# Altium integrated library Altera APEX 20KE.IntLib: 235 symbols (part 1 of 49)
Pins are listed as number, name and electrical type; pins without a type are passive.

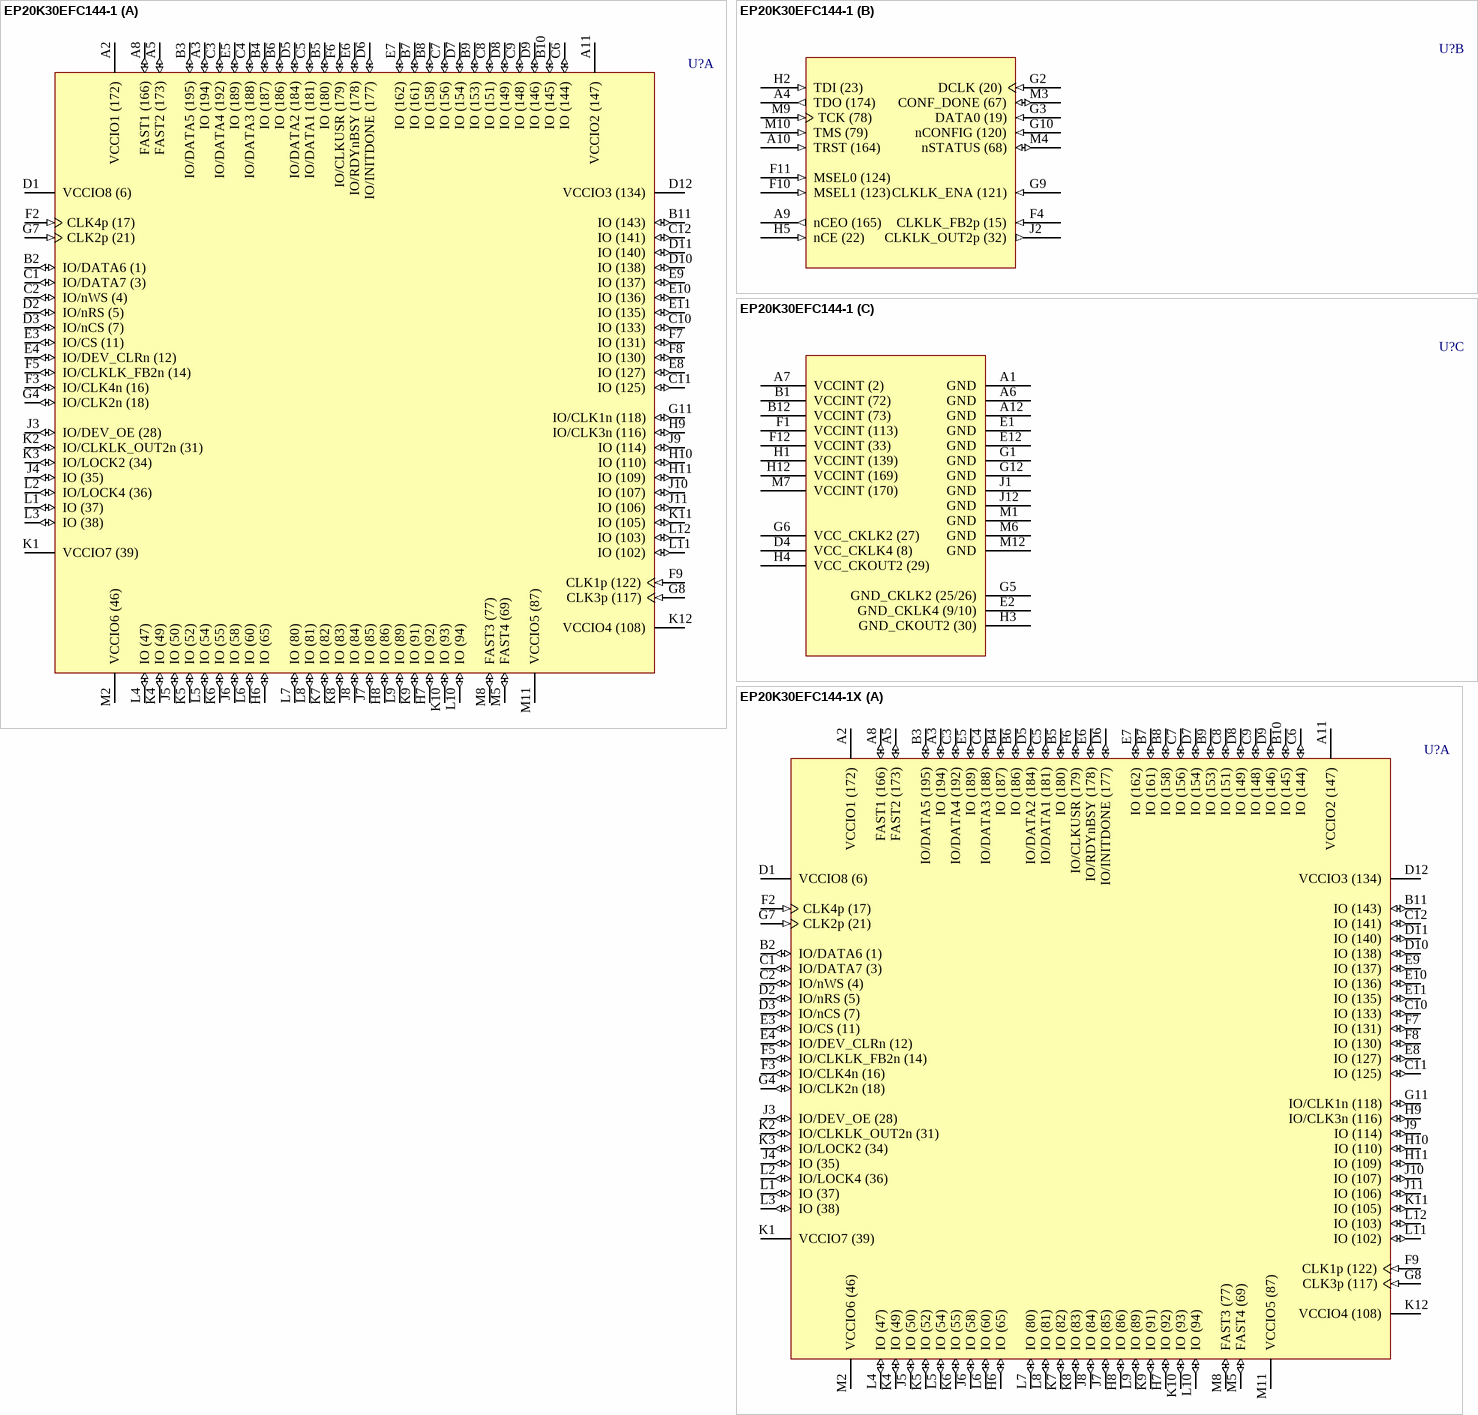
[diagram p0: symbols EP20K30EFC144-1 to EP20K30EFC144-1X]

## EP20K30EFC144-1
designator U?
APEX 20K30E PLD, 144-Pin FBGA, Commercial Grade, Speed Grade 1; Published: 17-Jul-2002; LatestRevisionDate: 13-Apr-2006; LatestRevisionNote: IPC-7351 Footprint Added.; DatasheetVersion: Mar-2004; PackageVersion: ver15.1, May-2008; PackageReference: FBGA144; Publisher: Altium Limited; PackageDescription: 144-Ball FineLine Ball Grid Array (FBGA144) - Wire Bond; Code_JEDEC: MO-192-AAD-1; Code_IPC: BGA100P12X12-144; ComponentLink1Description: Manufacturer Link; ComponentLink1URL: http://www.altera.com/products/devices/apex/apx-index.html; ComponentLink2Description: Datasheet; ComponentLink2URL: http://www.altera.com/literature/ds/apex.pdf
footprint FBGA144 (BGA, 144-Leads, Body 13x13mm, Pitch 1mm)
3D model EP20K30E-FBGA144 (144-Ball FineLine Ball Grid Array (FBGA144) - Wire Bond)
part A pins: A2 VCCIO1 (172) (power), A3 IO (194) (io), A5 FAST2 (173) (io), A8 FAST1 (166) (io), A11 VCCIO2 (147) (power), B2 IO/DATA6 (1) (io), B3 IO/DATA5 (195) (io), B4 IO (187) (io), B5 IO (180) (io), B6 IO (186) (io), B7 IO (161) (io), B8 IO (158) (io), B9 IO (153) (io), B10 IO (145) (io), B11 IO (143) (io), C1 IO/DATA7 (3) (io), C2 IO/nWS (4) (io), C3 IO/DATA4 (192) (io), C4 IO/DATA3 (188) (io), C5 IO/DATA1 (181) (io), C6 IO (144) (io), C7 IO (156) (io), C8 IO (151) (io), C9 IO (148) (io), C10 IO (133) (io), C11 IO (125) (io), C12 IO (141) (io), D1 VCCIO8 (6) (power), D2 IO/nRS (5) (io), D3 IO/nCS (7) (io), D5 IO/DATA2 (184) (io), D6 IO/INITDONE (177) (io), D7 IO (154) (io), D8 IO (149) (io), D9 IO (146) (io), D10 IO (138) (io), D11 IO (140) (io), D12 VCCIO3 (134) (power), E3 IO/CS (11) (io), E4 IO/DEV_CLRn (12) (io), E5 IO (189) (io), E6 IO/RDYnBSY (178) (io), E7 IO (162) (io), E8 IO (127) (io), E9 IO (137) (io), E10 IO (136) (io), E11 IO (135) (io), F2 CLK4p (17) (in), F3 IO/CLK4n (16) (io), F5 IO/CLKLK_FB2n (14) (io), F6 IO/CLKUSR (179) (io), F7 IO (131) (io), F8 IO (130) (io), F9 CLK1p (122) (in), G4 IO/CLK2n (18) (io), G7 CLK2p (21) (in), G8 CLK3p (117) (in), G11 IO/CLK1n (118) (io), H6 IO (65) (io), H7 IO (92) (io), H8 IO (86) (io), H9 IO/CLK3n (116) (io), H10 IO (110) (io), H11 IO (109) (io), J3 IO/DEV_OE (28) (io), J4 IO (35) (io), J5 IO (50) (io), J6 IO (58) (io), J7 IO (85) (io), J8 IO (84) (io), J9 IO (114) (io), J10 IO (107) (io), J11 IO (106) (io), K1 VCCIO7 (39) (power), K2 IO/CLKLK_OUT2n (31) (io), K3 IO/LOCK2 (34) (io), K4 IO (49) (io), K5 IO (52) (io), K6 IO (55) (io), K7 IO (82) (io), K8 IO (83) (io), K9 IO (91) (io), K10 IO (93) (io), K11 IO (105) (io), K12 VCCIO4 (108) (power), L1 IO (37) (io), L2 IO/LOCK4 (36) (io), L3 IO (38) (io), L4 IO (47) (io), L5 IO (54) (io), L6 IO (60) (io), L7 IO (80) (io), L8 IO (81) (io), L9 IO (89) (io), L10 IO (94) (io), L11 IO (102) (io), L12 IO (103) (io), M2 VCCIO6 (46) (power), M5 FAST4 (69) (io), M8 FAST3 (77) (io), M11 VCCIO5 (87) (power)
part B pins: A4 TDO (174) (out), A9 nCEO (165) (out), A10 TRST (164) (in), F4 CLKLK_FB2p (15) (in), F10 MSEL1 (123) (in), F11 MSEL0 (124) (in), G2 DCLK (20) (in), G3 DATA0 (19) (in), G9 CLKLK_ENA (121) (in), G10 nCONFIG (120) (in), H2 TDI (23) (in), H5 nCE (22) (in), J2 CLKLK_OUT2p (32) (out), M3 CONF_DONE (67) (io), M4 nSTATUS (68) (io), M9 TCK (78) (in), M10 TMS (79) (in)
part C pins: A1 GND (power), A6 GND (power), A7 VCCINT (2) (power), A12 GND (power), B1 VCCINT (72) (power), B12 VCCINT (73) (power), D4 VCC_CKLK4 (8) (power), E1 GND (power), E2 GND_CKLK4 (9/10) (power), E12 GND (power), F1 VCCINT (113) (power), F12 VCCINT (33) (power), G1 GND (power), G5 GND_CKLK2 (25/26) (power), G6 VCC_CKLK2 (27) (power), G12 GND (power), H1 VCCINT (139) (power), H3 GND_CKOUT2 (30) (power), H4 VCC_CKOUT2 (29) (power), H12 VCCINT (169) (power), J1 GND (power), J12 GND (power), M1 GND (power), M6 GND (power), M7 VCCINT (170) (power), M12 GND (power)

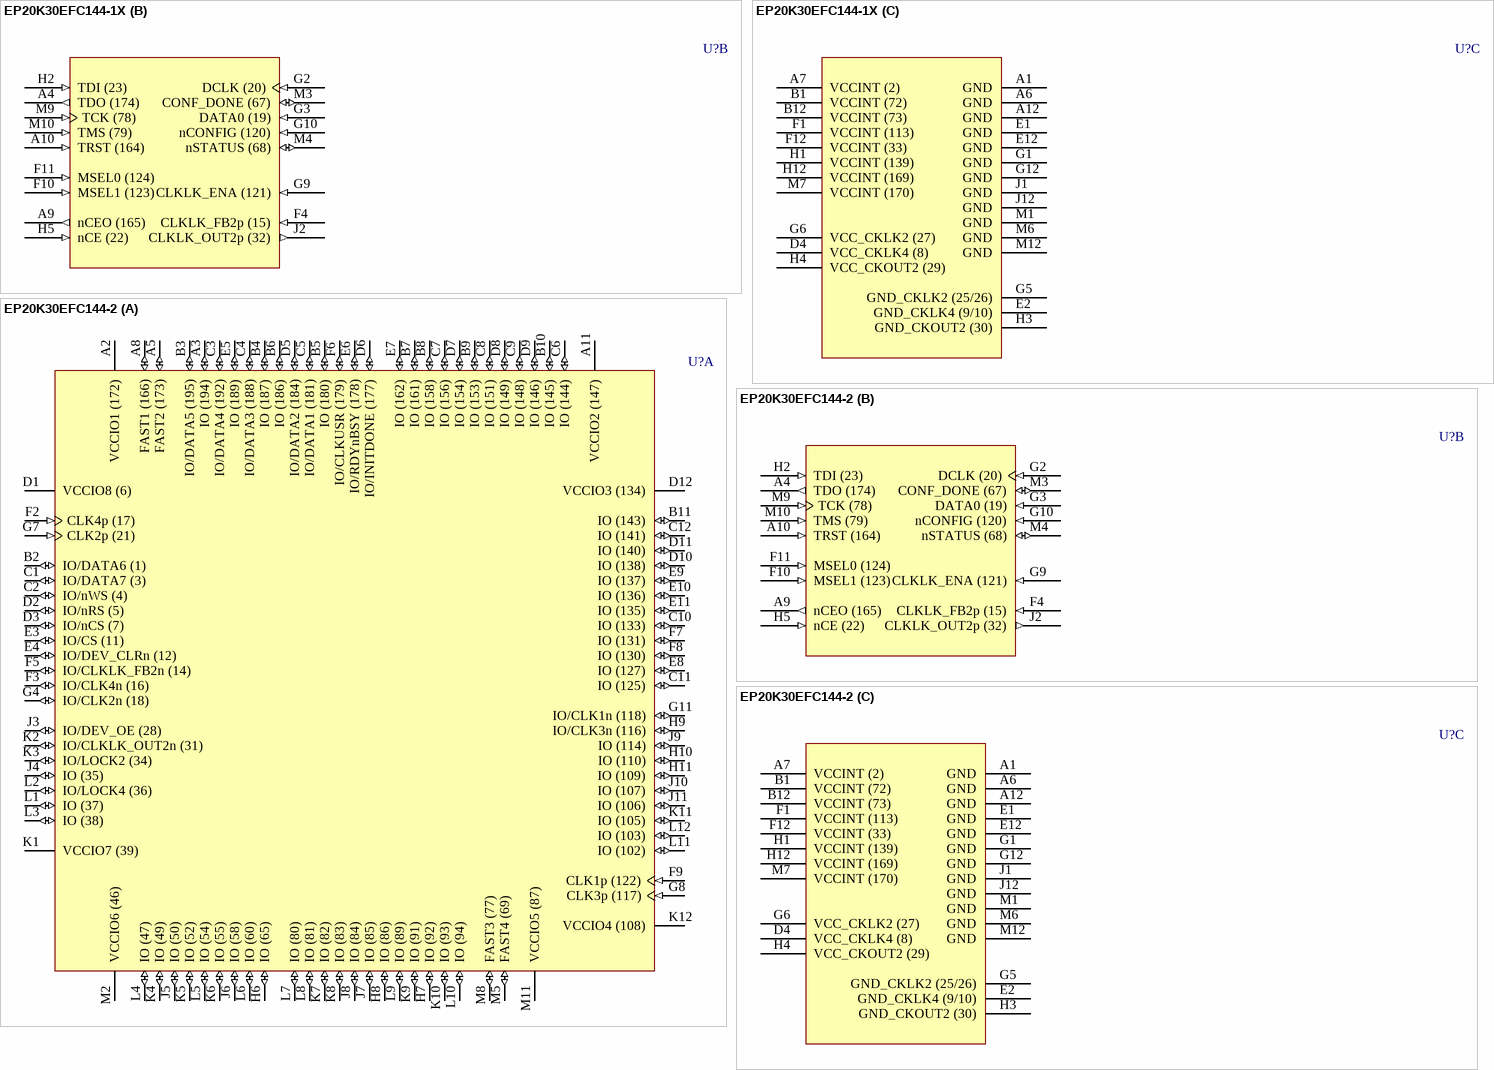
[diagram p1: symbols EP20K30EFC144-1X to EP20K30EFC144-2]

## EP20K30EFC144-1X
designator U?
APEX 20K30E PLD with PLLs and LVDS, 144-Pin FBGA, Commercial Grade, Speed Grade 1; Published: 17-Jul-2002; LatestRevisionDate: 13-Apr-2006; LatestRevisionNote: IPC-7351 Footprint Added.; DatasheetVersion: Mar-2004; PackageVersion: ver15.1, May-2008; PackageReference: FBGA144; Publisher: Altium Limited; PackageDescription: 144-Ball FineLine Ball Grid Array (FBGA144) - Wire Bond; Code_JEDEC: MO-192-AAD-1; Code_IPC: BGA100P12X12-144; ComponentLink1Description: Manufacturer Link; ComponentLink1URL: http://www.altera.com/products/devices/apex/apx-index.html; ComponentLink2Description: Datasheet; ComponentLink2URL: http://www.altera.com/literature/ds/apex.pdf
footprint FBGA144 (BGA, 144-Leads, Body 13x13mm, Pitch 1mm)
3D model EP20K30E-FBGA144 (144-Ball FineLine Ball Grid Array (FBGA144) - Wire Bond)
part A pins: A2 VCCIO1 (172) (power), A3 IO (194) (io), A5 FAST2 (173) (io), A8 FAST1 (166) (io), A11 VCCIO2 (147) (power), B2 IO/DATA6 (1) (io), B3 IO/DATA5 (195) (io), B4 IO (187) (io), B5 IO (180) (io), B6 IO (186) (io), B7 IO (161) (io), B8 IO (158) (io), B9 IO (153) (io), B10 IO (145) (io), B11 IO (143) (io), C1 IO/DATA7 (3) (io), C2 IO/nWS (4) (io), C3 IO/DATA4 (192) (io), C4 IO/DATA3 (188) (io), C5 IO/DATA1 (181) (io), C6 IO (144) (io), C7 IO (156) (io), C8 IO (151) (io), C9 IO (148) (io), C10 IO (133) (io), C11 IO (125) (io), C12 IO (141) (io), D1 VCCIO8 (6) (power), D2 IO/nRS (5) (io), D3 IO/nCS (7) (io), D5 IO/DATA2 (184) (io), D6 IO/INITDONE (177) (io), D7 IO (154) (io), D8 IO (149) (io), D9 IO (146) (io), D10 IO (138) (io), D11 IO (140) (io), D12 VCCIO3 (134) (power), E3 IO/CS (11) (io), E4 IO/DEV_CLRn (12) (io), E5 IO (189) (io), E6 IO/RDYnBSY (178) (io), E7 IO (162) (io), E8 IO (127) (io), E9 IO (137) (io), E10 IO (136) (io), E11 IO (135) (io), F2 CLK4p (17) (in), F3 IO/CLK4n (16) (io), F5 IO/CLKLK_FB2n (14) (io), F6 IO/CLKUSR (179) (io), F7 IO (131) (io), F8 IO (130) (io), F9 CLK1p (122) (in), G4 IO/CLK2n (18) (io), G7 CLK2p (21) (in), G8 CLK3p (117) (in), G11 IO/CLK1n (118) (io), H6 IO (65) (io), H7 IO (92) (io), H8 IO (86) (io), H9 IO/CLK3n (116) (io), H10 IO (110) (io), H11 IO (109) (io), J3 IO/DEV_OE (28) (io), J4 IO (35) (io), J5 IO (50) (io), J6 IO (58) (io), J7 IO (85) (io), J8 IO (84) (io), J9 IO (114) (io), J10 IO (107) (io), J11 IO (106) (io), K1 VCCIO7 (39) (power), K2 IO/CLKLK_OUT2n (31) (io), K3 IO/LOCK2 (34) (io), K4 IO (49) (io), K5 IO (52) (io), K6 IO (55) (io), K7 IO (82) (io), K8 IO (83) (io), K9 IO (91) (io), K10 IO (93) (io), K11 IO (105) (io), K12 VCCIO4 (108) (power), L1 IO (37) (io), L2 IO/LOCK4 (36) (io), L3 IO (38) (io), L4 IO (47) (io), L5 IO (54) (io), L6 IO (60) (io), L7 IO (80) (io), L8 IO (81) (io), L9 IO (89) (io), L10 IO (94) (io), L11 IO (102) (io), L12 IO (103) (io), M2 VCCIO6 (46) (power), M5 FAST4 (69) (io), M8 FAST3 (77) (io), M11 VCCIO5 (87) (power)
part B pins: A4 TDO (174) (out), A9 nCEO (165) (out), A10 TRST (164) (in), F4 CLKLK_FB2p (15) (in), F10 MSEL1 (123) (in), F11 MSEL0 (124) (in), G2 DCLK (20) (in), G3 DATA0 (19) (in), G9 CLKLK_ENA (121) (in), G10 nCONFIG (120) (in), H2 TDI (23) (in), H5 nCE (22) (in), J2 CLKLK_OUT2p (32) (out), M3 CONF_DONE (67) (io), M4 nSTATUS (68) (io), M9 TCK (78) (in), M10 TMS (79) (in)
part C pins: A1 GND (power), A6 GND (power), A7 VCCINT (2) (power), A12 GND (power), B1 VCCINT (72) (power), B12 VCCINT (73) (power), D4 VCC_CKLK4 (8) (power), E1 GND (power), E2 GND_CKLK4 (9/10) (power), E12 GND (power), F1 VCCINT (113) (power), F12 VCCINT (33) (power), G1 GND (power), G5 GND_CKLK2 (25/26) (power), G6 VCC_CKLK2 (27) (power), G12 GND (power), H1 VCCINT (139) (power), H3 GND_CKOUT2 (30) (power), H4 VCC_CKOUT2 (29) (power), H12 VCCINT (169) (power), J1 GND (power), J12 GND (power), M1 GND (power), M6 GND (power), M7 VCCINT (170) (power), M12 GND (power)

## EP20K30EFC144-2
designator U?
APEX 20K30E PLD, 144-Pin FBGA, Commercial Grade, Speed Grade 2; Published: 17-Jul-2002; LatestRevisionDate: 13-Apr-2006; LatestRevisionNote: IPC-7351 Footprint Added.; DatasheetVersion: Mar-2004; PackageVersion: ver15.1, May-2008; PackageReference: FBGA144; Publisher: Altium Limited; PackageDescription: 144-Ball FineLine Ball Grid Array (FBGA144) - Wire Bond; Code_JEDEC: MO-192-AAD-1; Code_IPC: BGA100P12X12-144; ComponentLink1Description: Manufacturer Link; ComponentLink1URL: http://www.altera.com/products/devices/apex/apx-index.html; ComponentLink2Description: Datasheet; ComponentLink2URL: http://www.altera.com/literature/ds/apex.pdf
footprint FBGA144 (BGA, 144-Leads, Body 13x13mm, Pitch 1mm)
3D model EP20K30E-FBGA144 (144-Ball FineLine Ball Grid Array (FBGA144) - Wire Bond)
part A pins: A2 VCCIO1 (172) (power), A3 IO (194) (io), A5 FAST2 (173) (io), A8 FAST1 (166) (io), A11 VCCIO2 (147) (power), B2 IO/DATA6 (1) (io), B3 IO/DATA5 (195) (io), B4 IO (187) (io), B5 IO (180) (io), B6 IO (186) (io), B7 IO (161) (io), B8 IO (158) (io), B9 IO (153) (io), B10 IO (145) (io), B11 IO (143) (io), C1 IO/DATA7 (3) (io), C2 IO/nWS (4) (io), C3 IO/DATA4 (192) (io), C4 IO/DATA3 (188) (io), C5 IO/DATA1 (181) (io), C6 IO (144) (io), C7 IO (156) (io), C8 IO (151) (io), C9 IO (148) (io), C10 IO (133) (io), C11 IO (125) (io), C12 IO (141) (io), D1 VCCIO8 (6) (power), D2 IO/nRS (5) (io), D3 IO/nCS (7) (io), D5 IO/DATA2 (184) (io), D6 IO/INITDONE (177) (io), D7 IO (154) (io), D8 IO (149) (io), D9 IO (146) (io), D10 IO (138) (io), D11 IO (140) (io), D12 VCCIO3 (134) (power), E3 IO/CS (11) (io), E4 IO/DEV_CLRn (12) (io), E5 IO (189) (io), E6 IO/RDYnBSY (178) (io), E7 IO (162) (io), E8 IO (127) (io), E9 IO (137) (io), E10 IO (136) (io), E11 IO (135) (io), F2 CLK4p (17) (in), F3 IO/CLK4n (16) (io), F5 IO/CLKLK_FB2n (14) (io), F6 IO/CLKUSR (179) (io), F7 IO (131) (io), F8 IO (130) (io), F9 CLK1p (122) (in), G4 IO/CLK2n (18) (io), G7 CLK2p (21) (in), G8 CLK3p (117) (in), G11 IO/CLK1n (118) (io), H6 IO (65) (io), H7 IO (92) (io), H8 IO (86) (io), H9 IO/CLK3n (116) (io), H10 IO (110) (io), H11 IO (109) (io), J3 IO/DEV_OE (28) (io), J4 IO (35) (io), J5 IO (50) (io), J6 IO (58) (io), J7 IO (85) (io), J8 IO (84) (io), J9 IO (114) (io), J10 IO (107) (io), J11 IO (106) (io), K1 VCCIO7 (39) (power), K2 IO/CLKLK_OUT2n (31) (io), K3 IO/LOCK2 (34) (io), K4 IO (49) (io), K5 IO (52) (io), K6 IO (55) (io), K7 IO (82) (io), K8 IO (83) (io), K9 IO (91) (io), K10 IO (93) (io), K11 IO (105) (io), K12 VCCIO4 (108) (power), L1 IO (37) (io), L2 IO/LOCK4 (36) (io), L3 IO (38) (io), L4 IO (47) (io), L5 IO (54) (io), L6 IO (60) (io), L7 IO (80) (io), L8 IO (81) (io), L9 IO (89) (io), L10 IO (94) (io), L11 IO (102) (io), L12 IO (103) (io), M2 VCCIO6 (46) (power), M5 FAST4 (69) (io), M8 FAST3 (77) (io), M11 VCCIO5 (87) (power)
part B pins: A4 TDO (174) (out), A9 nCEO (165) (out), A10 TRST (164) (in), F4 CLKLK_FB2p (15) (in), F10 MSEL1 (123) (in), F11 MSEL0 (124) (in), G2 DCLK (20) (in), G3 DATA0 (19) (in), G9 CLKLK_ENA (121) (in), G10 nCONFIG (120) (in), H2 TDI (23) (in), H5 nCE (22) (in), J2 CLKLK_OUT2p (32) (out), M3 CONF_DONE (67) (io), M4 nSTATUS (68) (io), M9 TCK (78) (in), M10 TMS (79) (in)
part C pins: A1 GND (power), A6 GND (power), A7 VCCINT (2) (power), A12 GND (power), B1 VCCINT (72) (power), B12 VCCINT (73) (power), D4 VCC_CKLK4 (8) (power), E1 GND (power), E2 GND_CKLK4 (9/10) (power), E12 GND (power), F1 VCCINT (113) (power), F12 VCCINT (33) (power), G1 GND (power), G5 GND_CKLK2 (25/26) (power), G6 VCC_CKLK2 (27) (power), G12 GND (power), H1 VCCINT (139) (power), H3 GND_CKOUT2 (30) (power), H4 VCC_CKOUT2 (29) (power), H12 VCCINT (169) (power), J1 GND (power), J12 GND (power), M1 GND (power), M6 GND (power), M7 VCCINT (170) (power), M12 GND (power)

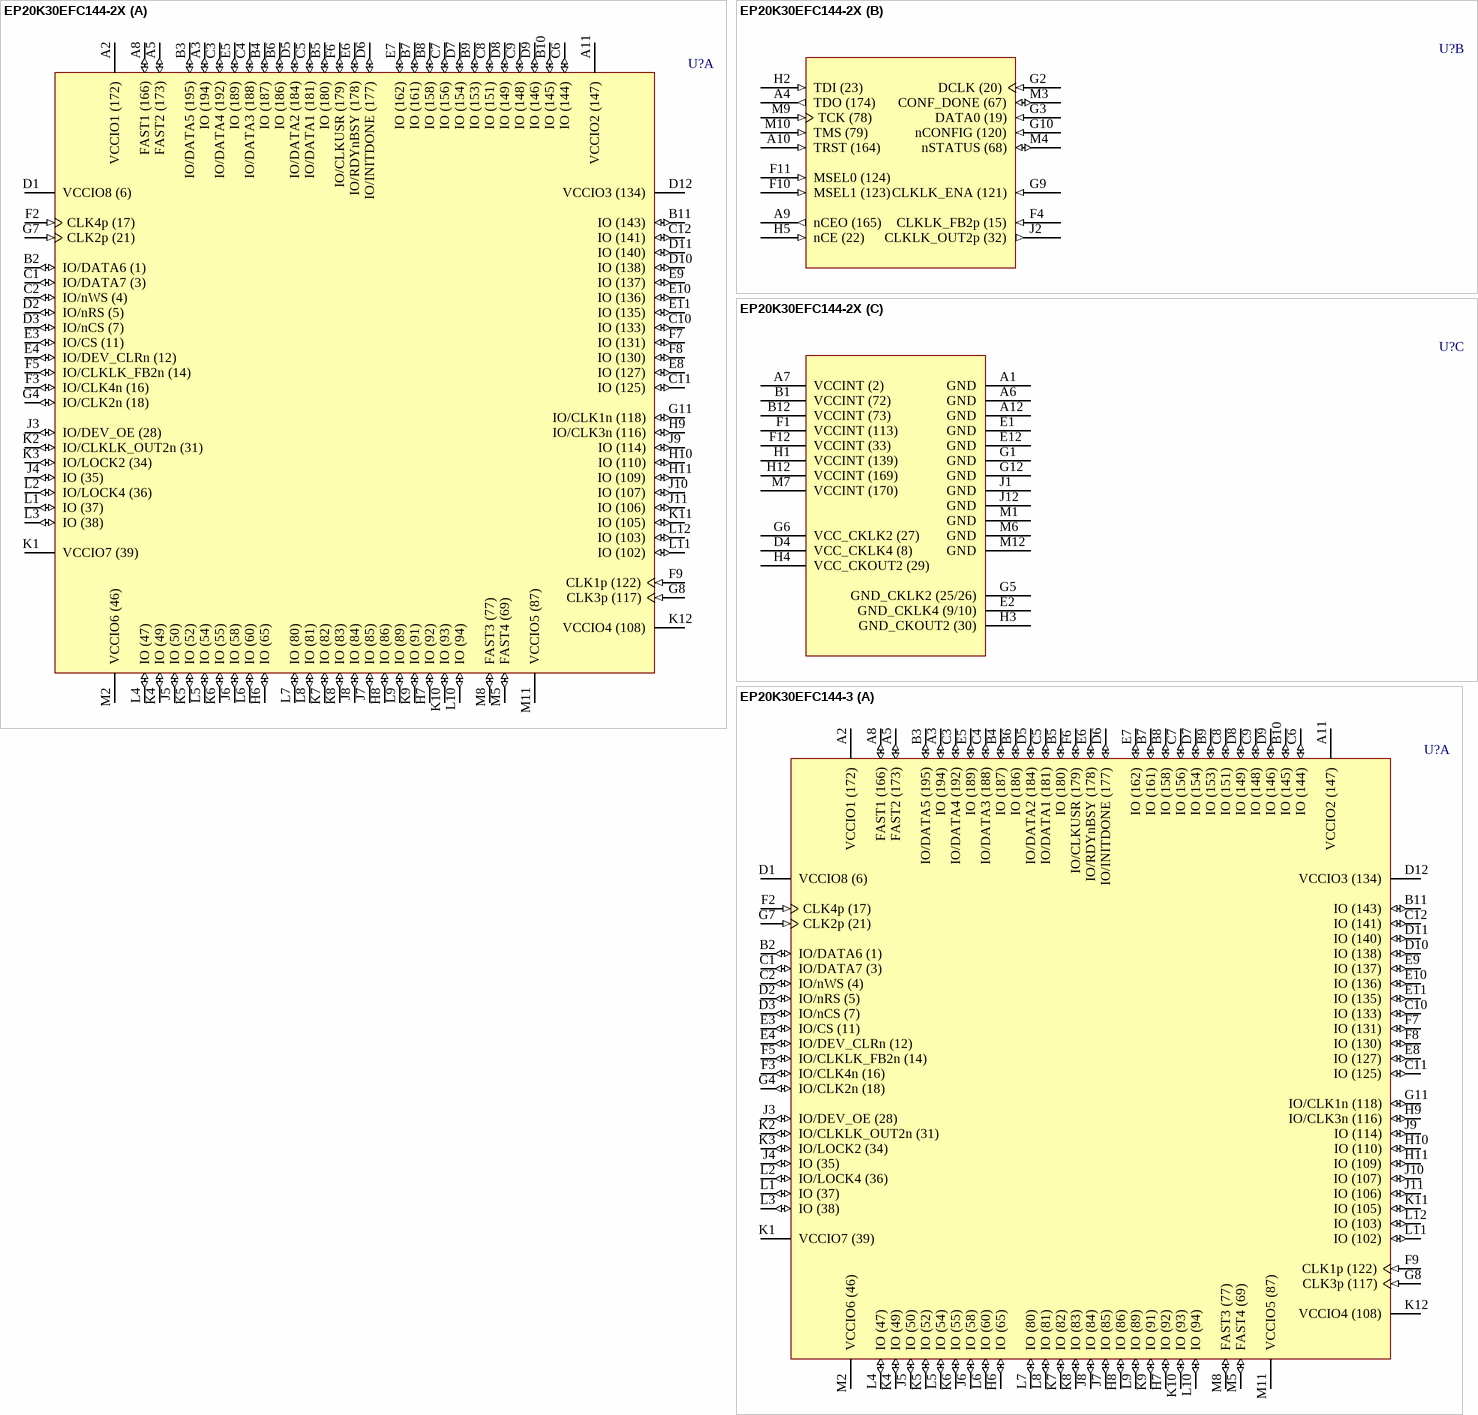
[diagram p2: symbols EP20K30EFC144-2X to EP20K30EFC144-3]

## EP20K30EFC144-2X
designator U?
APEX 20K30E PLD with PLLs and LVDS, 144-Pin FBGA, Commercial Grade, Speed Grade 2; Published: 17-Jul-2002; LatestRevisionDate: 13-Apr-2006; LatestRevisionNote: IPC-7351 Footprint Added.; DatasheetVersion: Mar-2004; PackageVersion: ver15.1, May-2008; PackageReference: FBGA144; Publisher: Altium Limited; PackageDescription: 144-Ball FineLine Ball Grid Array (FBGA144) - Wire Bond; Code_JEDEC: MO-192-AAD-1; Code_IPC: BGA100P12X12-144; ComponentLink1Description: Manufacturer Link; ComponentLink1URL: http://www.altera.com/products/devices/apex/apx-index.html; ComponentLink2Description: Datasheet; ComponentLink2URL: http://www.altera.com/literature/ds/apex.pdf
footprint FBGA144 (BGA, 144-Leads, Body 13x13mm, Pitch 1mm)
3D model EP20K30E-FBGA144 (144-Ball FineLine Ball Grid Array (FBGA144) - Wire Bond)
part A pins: A2 VCCIO1 (172) (power), A3 IO (194) (io), A5 FAST2 (173) (io), A8 FAST1 (166) (io), A11 VCCIO2 (147) (power), B2 IO/DATA6 (1) (io), B3 IO/DATA5 (195) (io), B4 IO (187) (io), B5 IO (180) (io), B6 IO (186) (io), B7 IO (161) (io), B8 IO (158) (io), B9 IO (153) (io), B10 IO (145) (io), B11 IO (143) (io), C1 IO/DATA7 (3) (io), C2 IO/nWS (4) (io), C3 IO/DATA4 (192) (io), C4 IO/DATA3 (188) (io), C5 IO/DATA1 (181) (io), C6 IO (144) (io), C7 IO (156) (io), C8 IO (151) (io), C9 IO (148) (io), C10 IO (133) (io), C11 IO (125) (io), C12 IO (141) (io), D1 VCCIO8 (6) (power), D2 IO/nRS (5) (io), D3 IO/nCS (7) (io), D5 IO/DATA2 (184) (io), D6 IO/INITDONE (177) (io), D7 IO (154) (io), D8 IO (149) (io), D9 IO (146) (io), D10 IO (138) (io), D11 IO (140) (io), D12 VCCIO3 (134) (power), E3 IO/CS (11) (io), E4 IO/DEV_CLRn (12) (io), E5 IO (189) (io), E6 IO/RDYnBSY (178) (io), E7 IO (162) (io), E8 IO (127) (io), E9 IO (137) (io), E10 IO (136) (io), E11 IO (135) (io), F2 CLK4p (17) (in), F3 IO/CLK4n (16) (io), F5 IO/CLKLK_FB2n (14) (io), F6 IO/CLKUSR (179) (io), F7 IO (131) (io), F8 IO (130) (io), F9 CLK1p (122) (in), G4 IO/CLK2n (18) (io), G7 CLK2p (21) (in), G8 CLK3p (117) (in), G11 IO/CLK1n (118) (io), H6 IO (65) (io), H7 IO (92) (io), H8 IO (86) (io), H9 IO/CLK3n (116) (io), H10 IO (110) (io), H11 IO (109) (io), J3 IO/DEV_OE (28) (io), J4 IO (35) (io), J5 IO (50) (io), J6 IO (58) (io), J7 IO (85) (io), J8 IO (84) (io), J9 IO (114) (io), J10 IO (107) (io), J11 IO (106) (io), K1 VCCIO7 (39) (power), K2 IO/CLKLK_OUT2n (31) (io), K3 IO/LOCK2 (34) (io), K4 IO (49) (io), K5 IO (52) (io), K6 IO (55) (io), K7 IO (82) (io), K8 IO (83) (io), K9 IO (91) (io), K10 IO (93) (io), K11 IO (105) (io), K12 VCCIO4 (108) (power), L1 IO (37) (io), L2 IO/LOCK4 (36) (io), L3 IO (38) (io), L4 IO (47) (io), L5 IO (54) (io), L6 IO (60) (io), L7 IO (80) (io), L8 IO (81) (io), L9 IO (89) (io), L10 IO (94) (io), L11 IO (102) (io), L12 IO (103) (io), M2 VCCIO6 (46) (power), M5 FAST4 (69) (io), M8 FAST3 (77) (io), M11 VCCIO5 (87) (power)
part B pins: A4 TDO (174) (out), A9 nCEO (165) (out), A10 TRST (164) (in), F4 CLKLK_FB2p (15) (in), F10 MSEL1 (123) (in), F11 MSEL0 (124) (in), G2 DCLK (20) (in), G3 DATA0 (19) (in), G9 CLKLK_ENA (121) (in), G10 nCONFIG (120) (in), H2 TDI (23) (in), H5 nCE (22) (in), J2 CLKLK_OUT2p (32) (out), M3 CONF_DONE (67) (io), M4 nSTATUS (68) (io), M9 TCK (78) (in), M10 TMS (79) (in)
part C pins: A1 GND (power), A6 GND (power), A7 VCCINT (2) (power), A12 GND (power), B1 VCCINT (72) (power), B12 VCCINT (73) (power), D4 VCC_CKLK4 (8) (power), E1 GND (power), E2 GND_CKLK4 (9/10) (power), E12 GND (power), F1 VCCINT (113) (power), F12 VCCINT (33) (power), G1 GND (power), G5 GND_CKLK2 (25/26) (power), G6 VCC_CKLK2 (27) (power), G12 GND (power), H1 VCCINT (139) (power), H3 GND_CKOUT2 (30) (power), H4 VCC_CKOUT2 (29) (power), H12 VCCINT (169) (power), J1 GND (power), J12 GND (power), M1 GND (power), M6 GND (power), M7 VCCINT (170) (power), M12 GND (power)

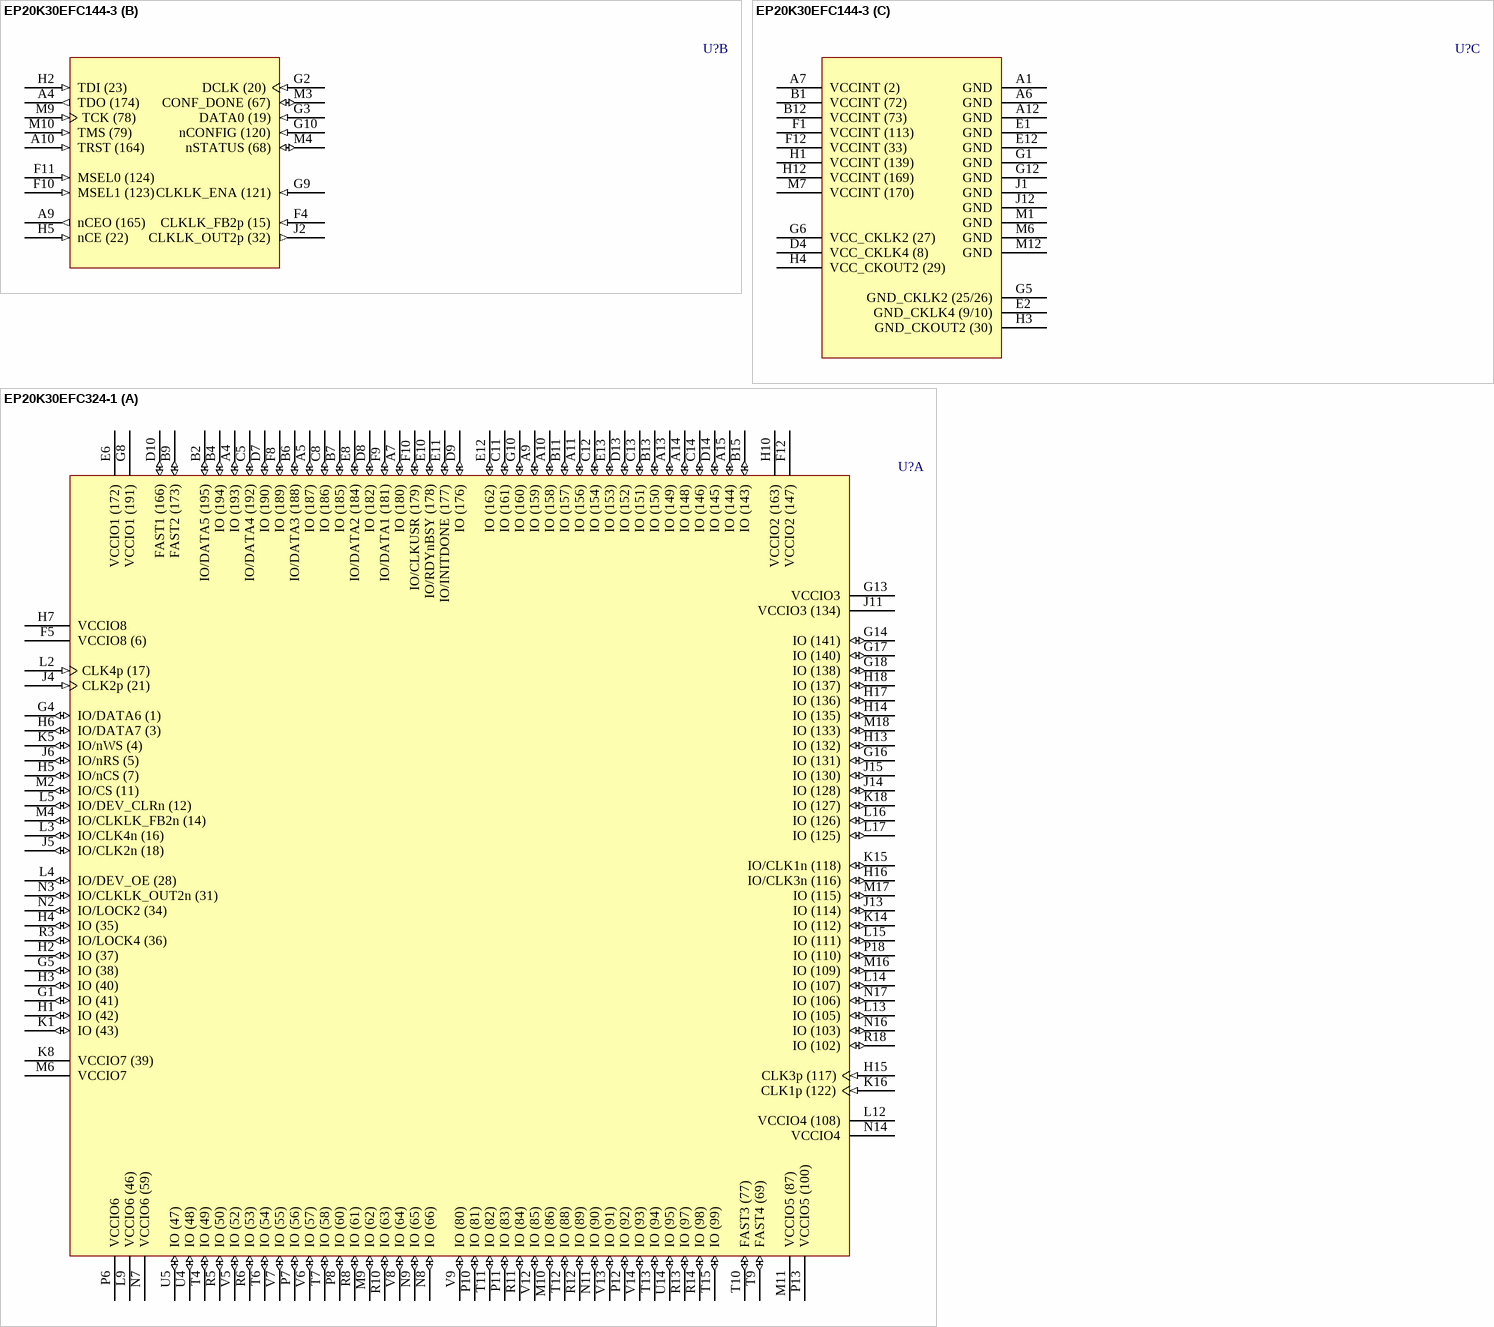
[diagram p3: symbols EP20K30EFC144-3 to EP20K30EFC324-1]

## EP20K30EFC144-3
designator U?
APEX 20K30E PLD, 144-Pin FBGA, Commercial Grade, Speed Grade 3; Published: 17-Jul-2002; LatestRevisionDate: 13-Apr-2006; LatestRevisionNote: IPC-7351 Footprint Added.; DatasheetVersion: Mar-2004; PackageVersion: ver15.1, May-2008; PackageReference: FBGA144; Publisher: Altium Limited; PackageDescription: 144-Ball FineLine Ball Grid Array (FBGA144) - Wire Bond; Code_JEDEC: MO-192-AAD-1; Code_IPC: BGA100P12X12-144; ComponentLink1Description: Manufacturer Link; ComponentLink1URL: http://www.altera.com/products/devices/apex/apx-index.html; ComponentLink2Description: Datasheet; ComponentLink2URL: http://www.altera.com/literature/ds/apex.pdf
footprint FBGA144 (BGA, 144-Leads, Body 13x13mm, Pitch 1mm)
3D model EP20K30E-FBGA144 (144-Ball FineLine Ball Grid Array (FBGA144) - Wire Bond)
part A pins: A2 VCCIO1 (172) (power), A3 IO (194) (io), A5 FAST2 (173) (io), A8 FAST1 (166) (io), A11 VCCIO2 (147) (power), B2 IO/DATA6 (1) (io), B3 IO/DATA5 (195) (io), B4 IO (187) (io), B5 IO (180) (io), B6 IO (186) (io), B7 IO (161) (io), B8 IO (158) (io), B9 IO (153) (io), B10 IO (145) (io), B11 IO (143) (io), C1 IO/DATA7 (3) (io), C2 IO/nWS (4) (io), C3 IO/DATA4 (192) (io), C4 IO/DATA3 (188) (io), C5 IO/DATA1 (181) (io), C6 IO (144) (io), C7 IO (156) (io), C8 IO (151) (io), C9 IO (148) (io), C10 IO (133) (io), C11 IO (125) (io), C12 IO (141) (io), D1 VCCIO8 (6) (power), D2 IO/nRS (5) (io), D3 IO/nCS (7) (io), D5 IO/DATA2 (184) (io), D6 IO/INITDONE (177) (io), D7 IO (154) (io), D8 IO (149) (io), D9 IO (146) (io), D10 IO (138) (io), D11 IO (140) (io), D12 VCCIO3 (134) (power), E3 IO/CS (11) (io), E4 IO/DEV_CLRn (12) (io), E5 IO (189) (io), E6 IO/RDYnBSY (178) (io), E7 IO (162) (io), E8 IO (127) (io), E9 IO (137) (io), E10 IO (136) (io), E11 IO (135) (io), F2 CLK4p (17) (in), F3 IO/CLK4n (16) (io), F5 IO/CLKLK_FB2n (14) (io), F6 IO/CLKUSR (179) (io), F7 IO (131) (io), F8 IO (130) (io), F9 CLK1p (122) (in), G4 IO/CLK2n (18) (io), G7 CLK2p (21) (in), G8 CLK3p (117) (in), G11 IO/CLK1n (118) (io), H6 IO (65) (io), H7 IO (92) (io), H8 IO (86) (io), H9 IO/CLK3n (116) (io), H10 IO (110) (io), H11 IO (109) (io), J3 IO/DEV_OE (28) (io), J4 IO (35) (io), J5 IO (50) (io), J6 IO (58) (io), J7 IO (85) (io), J8 IO (84) (io), J9 IO (114) (io), J10 IO (107) (io), J11 IO (106) (io), K1 VCCIO7 (39) (power), K2 IO/CLKLK_OUT2n (31) (io), K3 IO/LOCK2 (34) (io), K4 IO (49) (io), K5 IO (52) (io), K6 IO (55) (io), K7 IO (82) (io), K8 IO (83) (io), K9 IO (91) (io), K10 IO (93) (io), K11 IO (105) (io), K12 VCCIO4 (108) (power), L1 IO (37) (io), L2 IO/LOCK4 (36) (io), L3 IO (38) (io), L4 IO (47) (io), L5 IO (54) (io), L6 IO (60) (io), L7 IO (80) (io), L8 IO (81) (io), L9 IO (89) (io), L10 IO (94) (io), L11 IO (102) (io), L12 IO (103) (io), M2 VCCIO6 (46) (power), M5 FAST4 (69) (io), M8 FAST3 (77) (io), M11 VCCIO5 (87) (power)
part B pins: A4 TDO (174) (out), A9 nCEO (165) (out), A10 TRST (164) (in), F4 CLKLK_FB2p (15) (in), F10 MSEL1 (123) (in), F11 MSEL0 (124) (in), G2 DCLK (20) (in), G3 DATA0 (19) (in), G9 CLKLK_ENA (121) (in), G10 nCONFIG (120) (in), H2 TDI (23) (in), H5 nCE (22) (in), J2 CLKLK_OUT2p (32) (out), M3 CONF_DONE (67) (io), M4 nSTATUS (68) (io), M9 TCK (78) (in), M10 TMS (79) (in)
part C pins: A1 GND (power), A6 GND (power), A7 VCCINT (2) (power), A12 GND (power), B1 VCCINT (72) (power), B12 VCCINT (73) (power), D4 VCC_CKLK4 (8) (power), E1 GND (power), E2 GND_CKLK4 (9/10) (power), E12 GND (power), F1 VCCINT (113) (power), F12 VCCINT (33) (power), G1 GND (power), G5 GND_CKLK2 (25/26) (power), G6 VCC_CKLK2 (27) (power), G12 GND (power), H1 VCCINT (139) (power), H3 GND_CKOUT2 (30) (power), H4 VCC_CKOUT2 (29) (power), H12 VCCINT (169) (power), J1 GND (power), J12 GND (power), M1 GND (power), M6 GND (power), M7 VCCINT (170) (power), M12 GND (power)

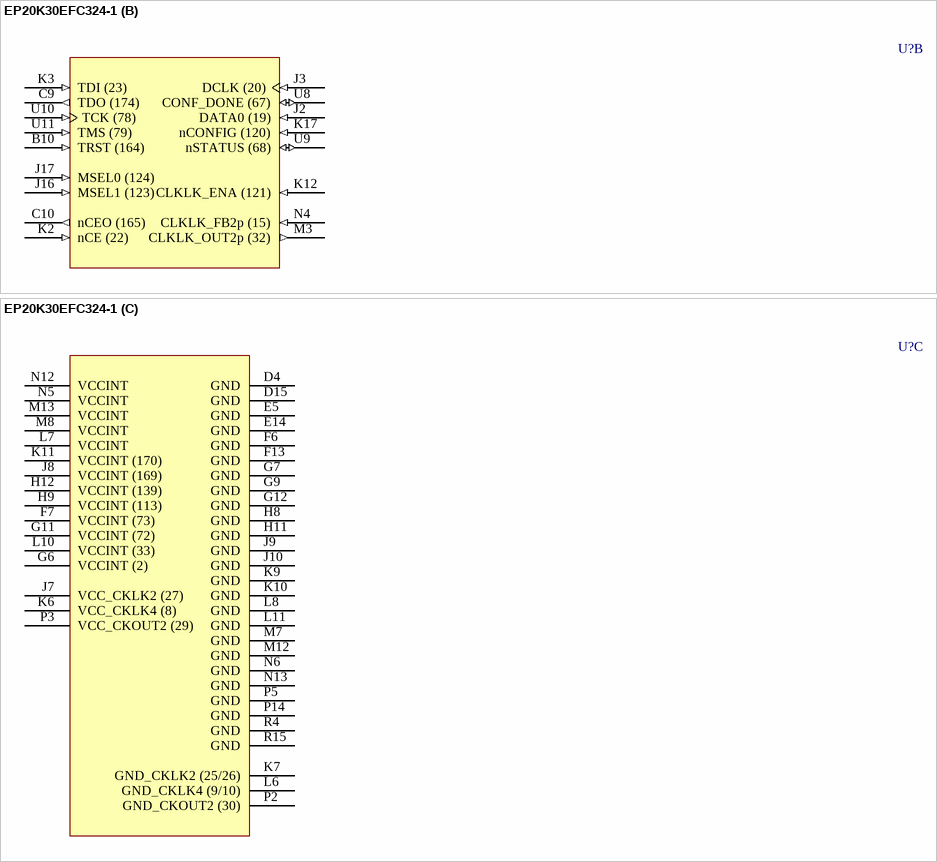
[diagram p4: symbol EP20K30EFC324-1]

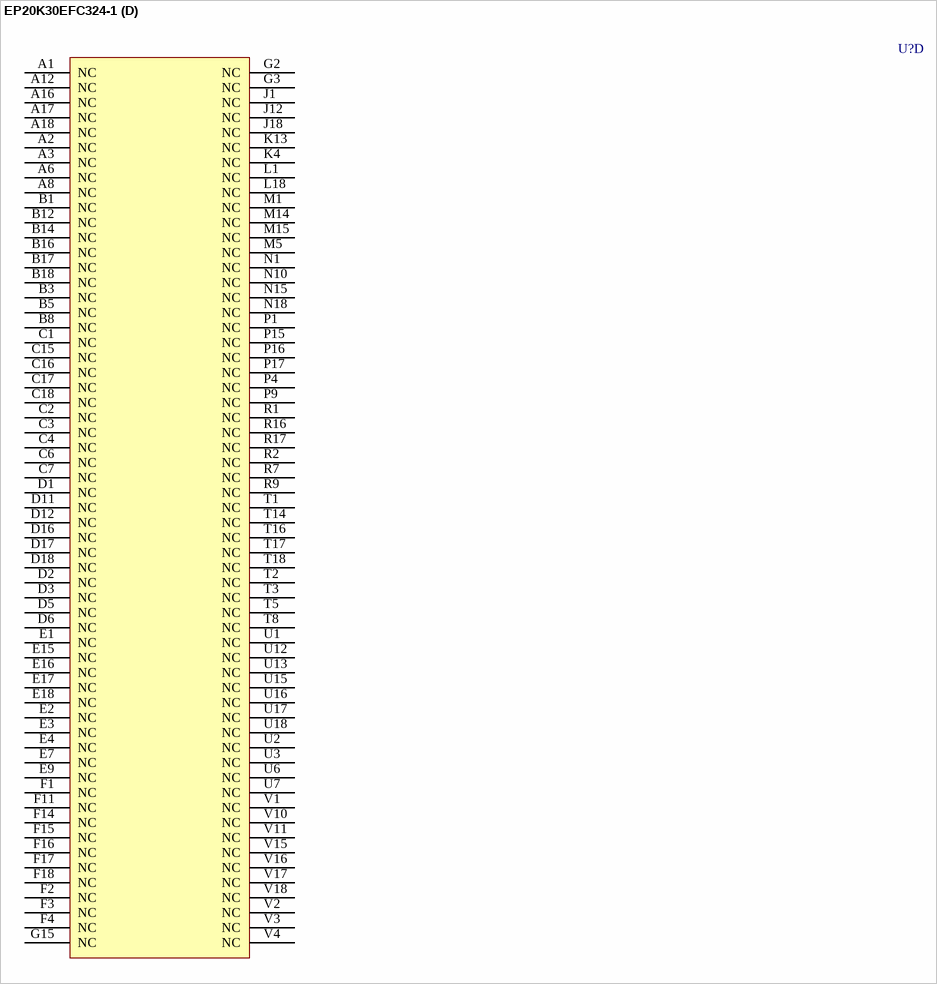
[diagram p5: symbol EP20K30EFC324-1]

## EP20K30EFC324-1
designator U?
APEX 20K30E PLD, 324-Pin FBGA, Commercial Grade, Speed Grade 1; Published: 17-Jul-2002; LatestRevisionDate: 13-Apr-2006; LatestRevisionNote: IPC-7351 Footprint Added.; DatasheetVersion: Mar-2004; PackageVersion: ver16.0, Dec-2009; PackageReference: FBGA324; Publisher: Altium Limited; PackageDescription: 324-Ball FineLine Ball Grid Array (FBGA324) - Wire Bond; Code_JEDEC: MS-034-AAG-1; Code_IPC: BGA100P18X18-324; ComponentLink1Description: Manufacturer Link; ComponentLink1URL: http://www.altera.com/products/devices/apex/apx-index.html; ComponentLink2Description: Datasheet; ComponentLink2URL: http://www.altera.com/literature/ds/apex.pdf
footprint FBGA324 (BGA, 324-Leads, Body 19x19mm, Pitch 1mm)
3D model EP20K30E-FBGA324 (324-Ball FineLine Ball Grid Array (FBGA324) - Wire Bond)
part A pins: A4 IO (193) (io), A5 IO (187) (io), A7 IO (180) (io), A9 IO (159) (io), A10 IO (158) (io), A11 IO (156) (io), A13 IO (149) (io), A14 IO (148) (io), A15 IO (144) (io), B2 IO/DATA5 (195) (io), B4 IO (194) (io), B6 IO/DATA3 (188) (io), B7 IO (185) (io), B9 FAST2 (173) (io), B11 IO (157) (io), B13 IO (150) (io), B15 IO (143) (io), C5 IO/DATA4 (192) (io), C8 IO (186) (io), C11 IO (161) (io), C12 IO (154) (io), C13 IO (151) (io), C14 IO (146) (io), D7 IO (190) (io), D8 IO (182) (io), D9 IO (176) (io), D10 FAST1 (166) (io), D13 IO (152) (io), D14 IO (145) (io), E6 VCCIO1 (172) (power), E8 IO/DATA2 (184) (io), E10 IO/RDYnBSY (178) (io), E11 IO/INITDONE (177) (io), E12 IO (162) (io), E13 IO (153) (io), F5 VCCIO8 (6) (power), F8 IO (189) (io), F9 IO/DATA1 (181) (io), F10 IO/CLKUSR (179) (io), F12 VCCIO2 (147) (power), G1 IO (41) (io), G4 IO/DATA6 (1) (io), G5 IO (38) (io), G8 VCCIO1 (191) (power), G10 IO (160) (io), G13 VCCIO3 (power), G14 IO (141) (io), G16 IO (131) (io), G17 IO (140) (io), G18 IO (138) (io), H1 IO (42) (io), H2 IO (37) (io), H3 IO (40) (io), H4 IO (35) (io), H5 IO/nCS (7) (io), H6 IO/DATA7 (3) (io), H7 VCCIO8 (power), H10 VCCIO2 (163) (power), H13 IO (132) (io), H14 IO (135) (io), H15 CLK3p (117) (in), H16 IO/CLK3n (116) (io), H17 IO (136) (io), H18 IO (137) (io), J4 CLK2p (21) (in), J5 IO/CLK2n (18) (io), J6 IO/nRS (5) (io), J11 VCCIO3 (134) (power), J13 IO (114) (io), J14 IO (128) (io), J15 IO (130) (io), K1 IO (43) (io), K5 IO/nWS (4) (io), K8 VCCIO7 (39) (power), K14 IO (112) (io), K15 IO/CLK1n (118) (io), K16 CLK1p (122) (in), K18 IO (127) (io), L2 CLK4p (17) (in), L3 IO/CLK4n (16) (io), L4 IO/DEV_OE (28) (io), L5 IO/DEV_CLRn (12) (io), L9 VCCIO6 (46) (power), L12 VCCIO4 (108) (power), L13 IO (105) (io), L14 IO (107) (io), L15 IO (111) (io), L16 IO (126) (io), L17 IO (125) (io), M2 IO/CS (11) (io), M4 IO/CLKLK_FB2n (14) (io), M6 VCCIO7 (power), M9 IO (62) (io), M10 IO (86) (io), M11 VCCIO5 (87) (power), M16 IO (109) (io), M17 IO (115) (io), M18 IO (133) (io), N2 IO/LOCK2 (34) (io), N3 IO/CLKLK_OUT2n (31) (io), N7 VCCIO6 (59) (power), N8 IO (66) (io), N9 IO (65) (io), N11 IO (90) (io), N14 VCCIO4 (power), N16 IO (103) (io), N17 IO (106) (io), P6 VCCIO6 (power), P7 IO (56) (io), P8 IO (60) (io), P10 IO (81) (io), P11 IO (83) (io), P12 IO (92) (io), P13 VCCIO5 (100) (power), P18 IO (110) (io), R3 IO/LOCK4 (36) (io), R5 IO (50) (io), R6 IO (53) (io), R8 IO (61) (io), R10 IO (63) (io), R11 IO (84) (io), R12 IO (89) (io), R13 IO (97) (io), R14 IO (98) (io), R18 IO (102) (io), T4 IO (49) (io), T6 IO (54) (io), T7 IO (58) (io), T9 FAST4 (69) (io), T10 FAST3 (77) (io), T11 IO (82) (io), T12 IO (88) (io), T13 IO (94) (io), T15 IO (99) (io), U4 IO (48) (io), U5 IO (47) (io), U14 IO (95) (io), V5 IO (52) (io), V6 IO (57) (io), V7 IO (55) (io), V8 IO (64) (io), V9 IO (80) (io), V12 IO (85) (io), V13 IO (91) (io), V14 IO (93) (io)
part B pins: B10 TRST (164) (in), C9 TDO (174) (out), C10 nCEO (165) (out), J2 DATA0 (19) (in), J3 DCLK (20) (in), J16 MSEL1 (123) (in), J17 MSEL0 (124) (in), K2 nCE (22) (in), K3 TDI (23) (in), K12 CLKLK_ENA (121) (in), K17 nCONFIG (120) (in), M3 CLKLK_OUT2p (32) (out), N4 CLKLK_FB2p (15) (in), U8 CONF_DONE (67) (io), U9 nSTATUS (68) (io), U10 TCK (78) (in), U11 TMS (79) (in)
part C pins: D4 GND (power), D15 GND (power), E5 GND (power), E14 GND (power), F6 GND (power), F7 VCCINT (73) (power), F13 GND (power), G6 VCCINT (2) (power), G7 GND (power), G9 GND (power), G11 VCCINT (72) (power), G12 GND (power), H8 GND (power), H9 VCCINT (113) (power), H11 GND (power), H12 VCCINT (139) (power), J7 VCC_CKLK2 (27) (power), J8 VCCINT (169) (power), J9 GND (power), J10 GND (power), K6 VCC_CKLK4 (8) (power), K7 GND_CKLK2 (25/26) (power), K9 GND (power), K10 GND (power), K11 VCCINT (170) (power), L6 GND_CKLK4 (9/10) (power), L7 VCCINT (power), L8 GND (power), L10 VCCINT (33) (power), L11 GND (power), M7 GND (power), M8 VCCINT (power), M12 GND (power), M13 VCCINT (power), N5 VCCINT (power), N6 GND (power), N12 VCCINT (power), N13 GND (power), P2 GND_CKOUT2 (30) (power), P3 VCC_CKOUT2 (29) (power), P5 GND (power), P14 GND (power), R4 GND (power), R15 GND (power)
part D pins: A1 NC, A2 NC, A3 NC, A6 NC, A8 NC, A12 NC, A16 NC, A17 NC, A18 NC, B1 NC, B3 NC, B5 NC, B8 NC, B12 NC, B14 NC, B16 NC, B17 NC, B18 NC, C1 NC, C2 NC, C3 NC, C4 NC, C6 NC, C7 NC, C15 NC, C16 NC, C17 NC, C18 NC, D1 NC, D2 NC, D3 NC, D5 NC, D6 NC, D11 NC, D12 NC, D16 NC, D17 NC, D18 NC, E1 NC, E2 NC, E3 NC, E4 NC, E7 NC, E9 NC, E15 NC, E16 NC, E17 NC, E18 NC, F1 NC, F2 NC, F3 NC, F4 NC, F11 NC, F14 NC, F15 NC, F16 NC, F17 NC, F18 NC, G2 NC, G3 NC, G15 NC, J1 NC, J12 NC, J18 NC, K4 NC, K13 NC, L1 NC, L18 NC, M1 NC, M5 NC, M14 NC, M15 NC, N1 NC, N10 NC, N15 NC, N18 NC, P1 NC, P4 NC, P9 NC, P15 NC, P16 NC, P17 NC, R1 NC, R2 NC, R7 NC, R9 NC, R16 NC, R17 NC, T1 NC, T2 NC, T3 NC, T5 NC, T8 NC, T14 NC, T16 NC, T17 NC, T18 NC, U1 NC, U2 NC, U3 NC, U6 NC, U7 NC, U12 NC, U13 NC, U15 NC, U16 NC, U17 NC, U18 NC, V1 NC, V2 NC, V3 NC, V4 NC, V10 NC, V11 NC, V15 NC, V16 NC, V17 NC, V18 NC

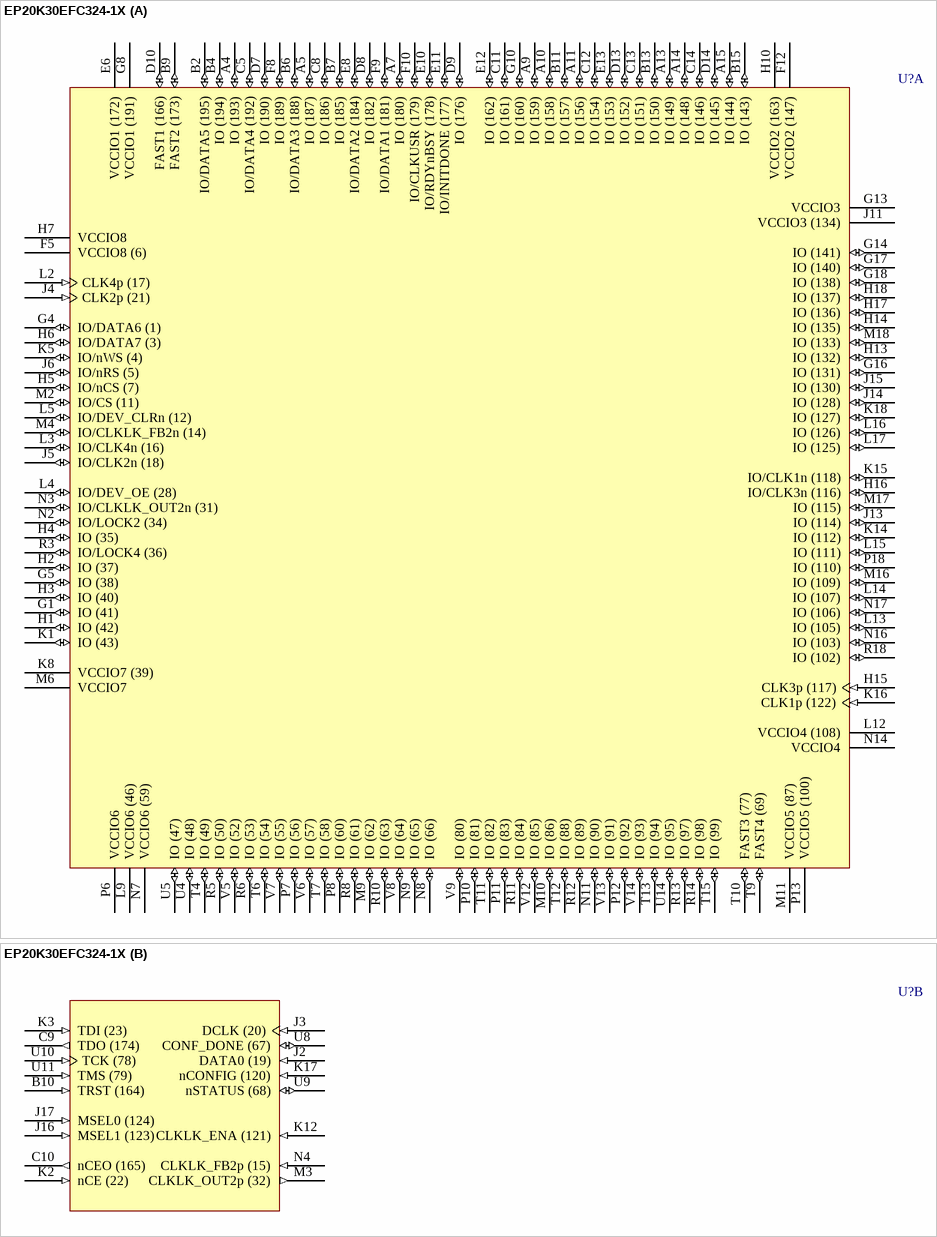
[diagram p6: symbol EP20K30EFC324-1X]

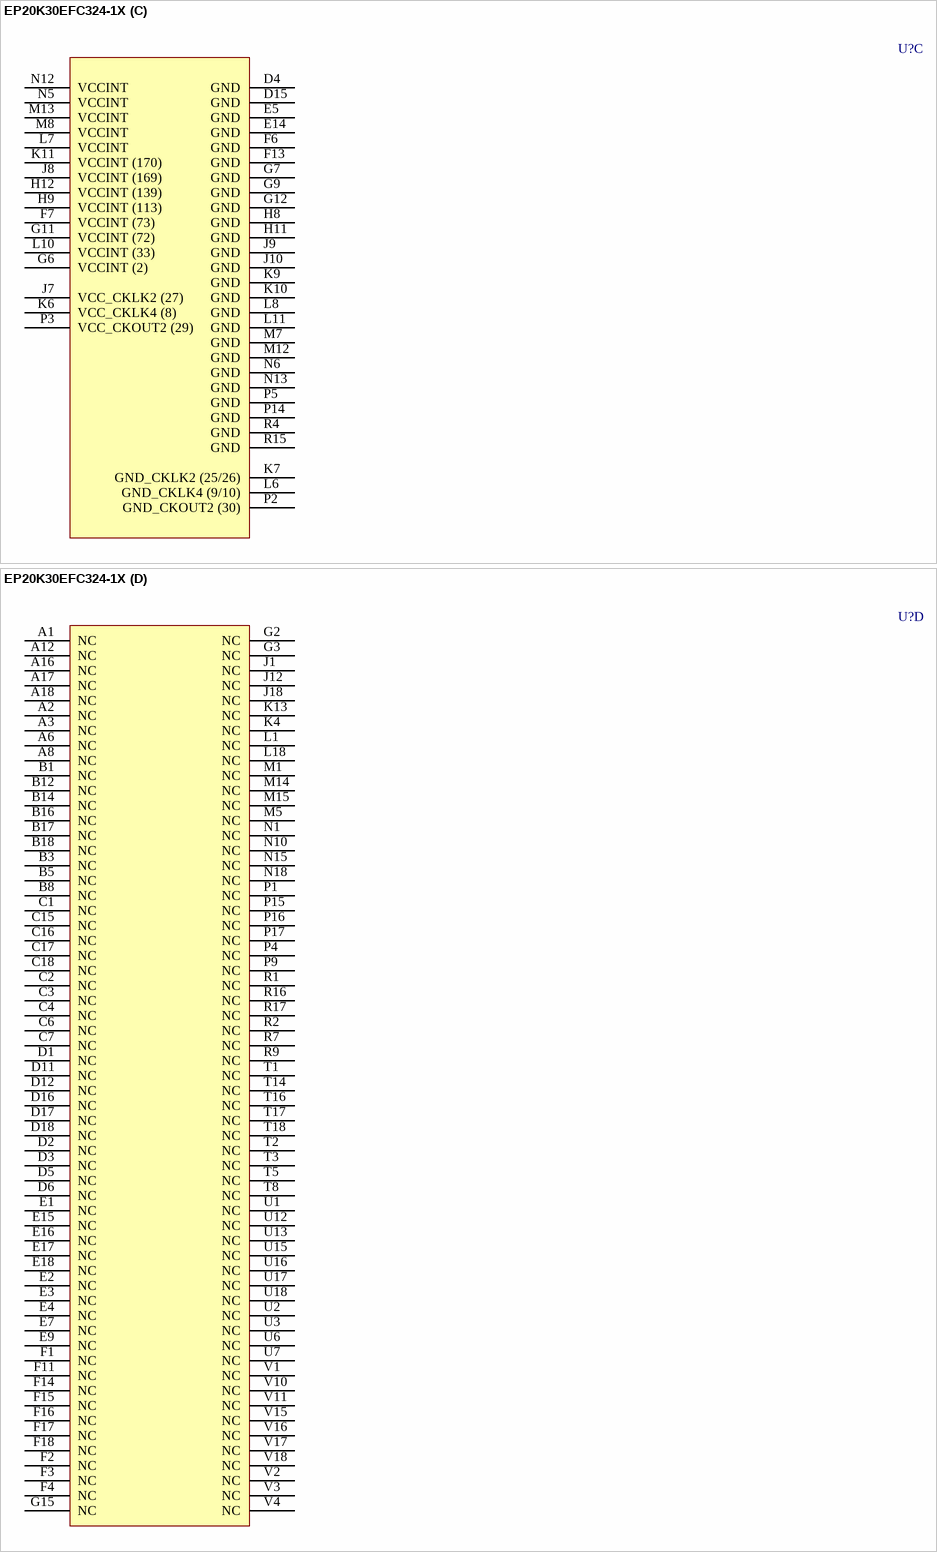
[diagram p7: symbol EP20K30EFC324-1X]

## EP20K30EFC324-1X
designator U?
APEX 20K30E PLD with PLLs and LVDS, 324-Pin FBGA, Commercial Grade, Speed Grade 1; Published: 17-Jul-2002; LatestRevisionDate: 13-Apr-2006; LatestRevisionNote: IPC-7351 Footprint Added.; DatasheetVersion: Mar-2004; PackageVersion: ver16.0, Dec-2009; PackageReference: FBGA324; Publisher: Altium Limited; PackageDescription: 324-Ball FineLine Ball Grid Array (FBGA324) - Wire Bond; Code_JEDEC: MS-034-AAG-1; Code_IPC: BGA100P18X18-324; ComponentLink1Description: Manufacturer Link; ComponentLink1URL: http://www.altera.com/products/devices/apex/apx-index.html; ComponentLink2Description: Datasheet; ComponentLink2URL: http://www.altera.com/literature/ds/apex.pdf
footprint FBGA324 (BGA, 324-Leads, Body 19x19mm, Pitch 1mm)
3D model EP20K30E-FBGA324 (324-Ball FineLine Ball Grid Array (FBGA324) - Wire Bond)
part A pins: A4 IO (193) (io), A5 IO (187) (io), A7 IO (180) (io), A9 IO (159) (io), A10 IO (158) (io), A11 IO (156) (io), A13 IO (149) (io), A14 IO (148) (io), A15 IO (144) (io), B2 IO/DATA5 (195) (io), B4 IO (194) (io), B6 IO/DATA3 (188) (io), B7 IO (185) (io), B9 FAST2 (173) (io), B11 IO (157) (io), B13 IO (150) (io), B15 IO (143) (io), C5 IO/DATA4 (192) (io), C8 IO (186) (io), C11 IO (161) (io), C12 IO (154) (io), C13 IO (151) (io), C14 IO (146) (io), D7 IO (190) (io), D8 IO (182) (io), D9 IO (176) (io), D10 FAST1 (166) (io), D13 IO (152) (io), D14 IO (145) (io), E6 VCCIO1 (172) (power), E8 IO/DATA2 (184) (io), E10 IO/RDYnBSY (178) (io), E11 IO/INITDONE (177) (io), E12 IO (162) (io), E13 IO (153) (io), F5 VCCIO8 (6) (power), F8 IO (189) (io), F9 IO/DATA1 (181) (io), F10 IO/CLKUSR (179) (io), F12 VCCIO2 (147) (power), G1 IO (41) (io), G4 IO/DATA6 (1) (io), G5 IO (38) (io), G8 VCCIO1 (191) (power), G10 IO (160) (io), G13 VCCIO3 (power), G14 IO (141) (io), G16 IO (131) (io), G17 IO (140) (io), G18 IO (138) (io), H1 IO (42) (io), H2 IO (37) (io), H3 IO (40) (io), H4 IO (35) (io), H5 IO/nCS (7) (io), H6 IO/DATA7 (3) (io), H7 VCCIO8 (power), H10 VCCIO2 (163) (power), H13 IO (132) (io), H14 IO (135) (io), H15 CLK3p (117) (in), H16 IO/CLK3n (116) (io), H17 IO (136) (io), H18 IO (137) (io), J4 CLK2p (21) (in), J5 IO/CLK2n (18) (io), J6 IO/nRS (5) (io), J11 VCCIO3 (134) (power), J13 IO (114) (io), J14 IO (128) (io), J15 IO (130) (io), K1 IO (43) (io), K5 IO/nWS (4) (io), K8 VCCIO7 (39) (power), K14 IO (112) (io), K15 IO/CLK1n (118) (io), K16 CLK1p (122) (in), K18 IO (127) (io), L2 CLK4p (17) (in), L3 IO/CLK4n (16) (io), L4 IO/DEV_OE (28) (io), L5 IO/DEV_CLRn (12) (io), L9 VCCIO6 (46) (power), L12 VCCIO4 (108) (power), L13 IO (105) (io), L14 IO (107) (io), L15 IO (111) (io), L16 IO (126) (io), L17 IO (125) (io), M2 IO/CS (11) (io), M4 IO/CLKLK_FB2n (14) (io), M6 VCCIO7 (power), M9 IO (62) (io), M10 IO (86) (io), M11 VCCIO5 (87) (power), M16 IO (109) (io), M17 IO (115) (io), M18 IO (133) (io), N2 IO/LOCK2 (34) (io), N3 IO/CLKLK_OUT2n (31) (io), N7 VCCIO6 (59) (power), N8 IO (66) (io), N9 IO (65) (io), N11 IO (90) (io), N14 VCCIO4 (power), N16 IO (103) (io), N17 IO (106) (io), P6 VCCIO6 (power), P7 IO (56) (io), P8 IO (60) (io), P10 IO (81) (io), P11 IO (83) (io), P12 IO (92) (io), P13 VCCIO5 (100) (power), P18 IO (110) (io), R3 IO/LOCK4 (36) (io), R5 IO (50) (io), R6 IO (53) (io), R8 IO (61) (io), R10 IO (63) (io), R11 IO (84) (io), R12 IO (89) (io), R13 IO (97) (io), R14 IO (98) (io), R18 IO (102) (io), T4 IO (49) (io), T6 IO (54) (io), T7 IO (58) (io), T9 FAST4 (69) (io), T10 FAST3 (77) (io), T11 IO (82) (io), T12 IO (88) (io), T13 IO (94) (io), T15 IO (99) (io), U4 IO (48) (io), U5 IO (47) (io), U14 IO (95) (io), V5 IO (52) (io), V6 IO (57) (io), V7 IO (55) (io), V8 IO (64) (io), V9 IO (80) (io), V12 IO (85) (io), V13 IO (91) (io), V14 IO (93) (io)
part B pins: B10 TRST (164) (in), C9 TDO (174) (out), C10 nCEO (165) (out), J2 DATA0 (19) (in), J3 DCLK (20) (in), J16 MSEL1 (123) (in), J17 MSEL0 (124) (in), K2 nCE (22) (in), K3 TDI (23) (in), K12 CLKLK_ENA (121) (in), K17 nCONFIG (120) (in), M3 CLKLK_OUT2p (32) (out), N4 CLKLK_FB2p (15) (in), U8 CONF_DONE (67) (io), U9 nSTATUS (68) (io), U10 TCK (78) (in), U11 TMS (79) (in)
part C pins: D4 GND (power), D15 GND (power), E5 GND (power), E14 GND (power), F6 GND (power), F7 VCCINT (73) (power), F13 GND (power), G6 VCCINT (2) (power), G7 GND (power), G9 GND (power), G11 VCCINT (72) (power), G12 GND (power), H8 GND (power), H9 VCCINT (113) (power), H11 GND (power), H12 VCCINT (139) (power), J7 VCC_CKLK2 (27) (power), J8 VCCINT (169) (power), J9 GND (power), J10 GND (power), K6 VCC_CKLK4 (8) (power), K7 GND_CKLK2 (25/26) (power), K9 GND (power), K10 GND (power), K11 VCCINT (170) (power), L6 GND_CKLK4 (9/10) (power), L7 VCCINT (power), L8 GND (power), L10 VCCINT (33) (power), L11 GND (power), M7 GND (power), M8 VCCINT (power), M12 GND (power), M13 VCCINT (power), N5 VCCINT (power), N6 GND (power), N12 VCCINT (power), N13 GND (power), P2 GND_CKOUT2 (30) (power), P3 VCC_CKOUT2 (29) (power), P5 GND (power), P14 GND (power), R4 GND (power), R15 GND (power)
part D pins: A1 NC, A2 NC, A3 NC, A6 NC, A8 NC, A12 NC, A16 NC, A17 NC, A18 NC, B1 NC, B3 NC, B5 NC, B8 NC, B12 NC, B14 NC, B16 NC, B17 NC, B18 NC, C1 NC, C2 NC, C3 NC, C4 NC, C6 NC, C7 NC, C15 NC, C16 NC, C17 NC, C18 NC, D1 NC, D2 NC, D3 NC, D5 NC, D6 NC, D11 NC, D12 NC, D16 NC, D17 NC, D18 NC, E1 NC, E2 NC, E3 NC, E4 NC, E7 NC, E9 NC, E15 NC, E16 NC, E17 NC, E18 NC, F1 NC, F2 NC, F3 NC, F4 NC, F11 NC, F14 NC, F15 NC, F16 NC, F17 NC, F18 NC, G2 NC, G3 NC, G15 NC, J1 NC, J12 NC, J18 NC, K4 NC, K13 NC, L1 NC, L18 NC, M1 NC, M5 NC, M14 NC, M15 NC, N1 NC, N10 NC, N15 NC, N18 NC, P1 NC, P4 NC, P9 NC, P15 NC, P16 NC, P17 NC, R1 NC, R2 NC, R7 NC, R9 NC, R16 NC, R17 NC, T1 NC, T2 NC, T3 NC, T5 NC, T8 NC, T14 NC, T16 NC, T17 NC, T18 NC, U1 NC, U2 NC, U3 NC, U6 NC, U7 NC, U12 NC, U13 NC, U15 NC, U16 NC, U17 NC, U18 NC, V1 NC, V2 NC, V3 NC, V4 NC, V10 NC, V11 NC, V15 NC, V16 NC, V17 NC, V18 NC

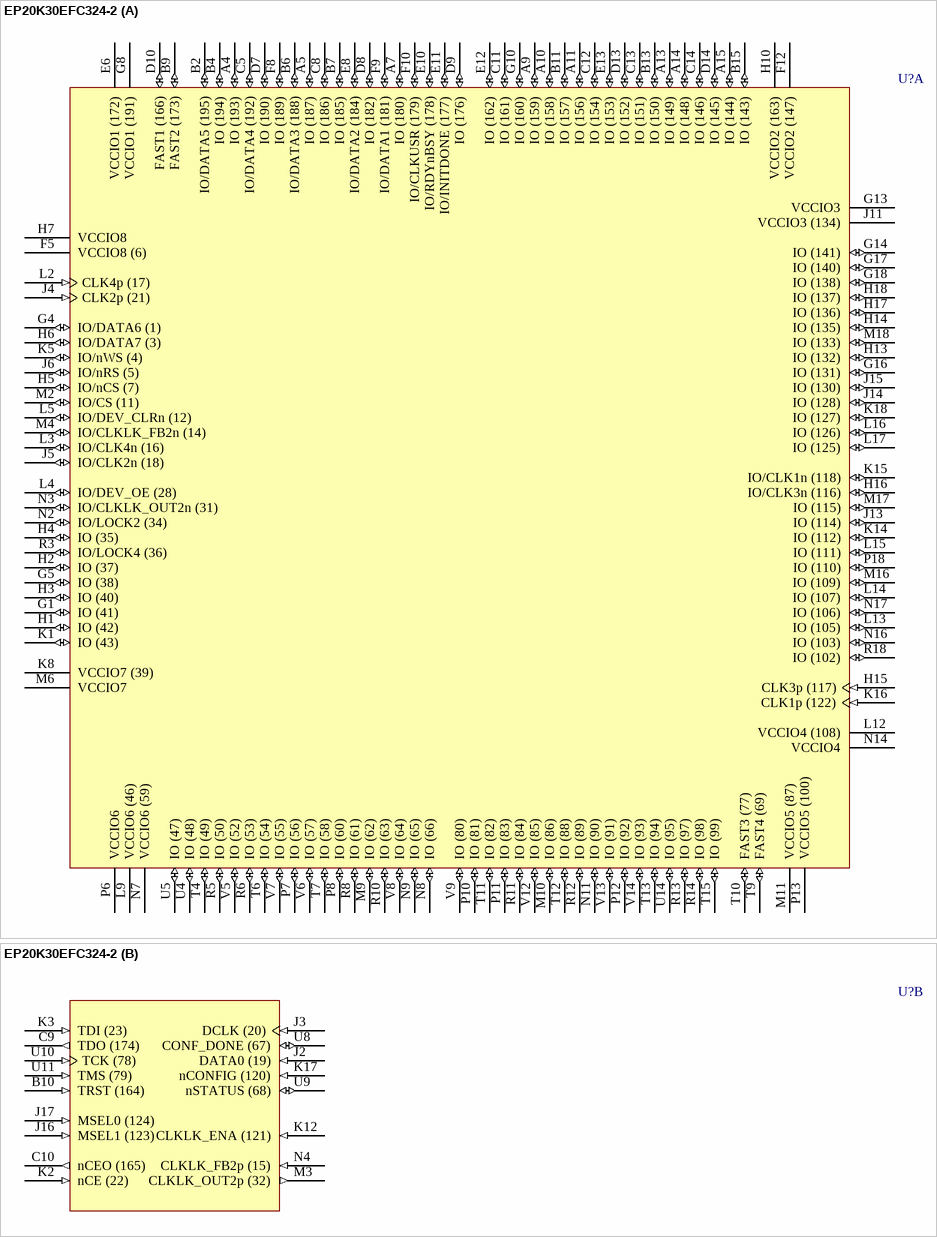
[diagram p8: symbol EP20K30EFC324-2]

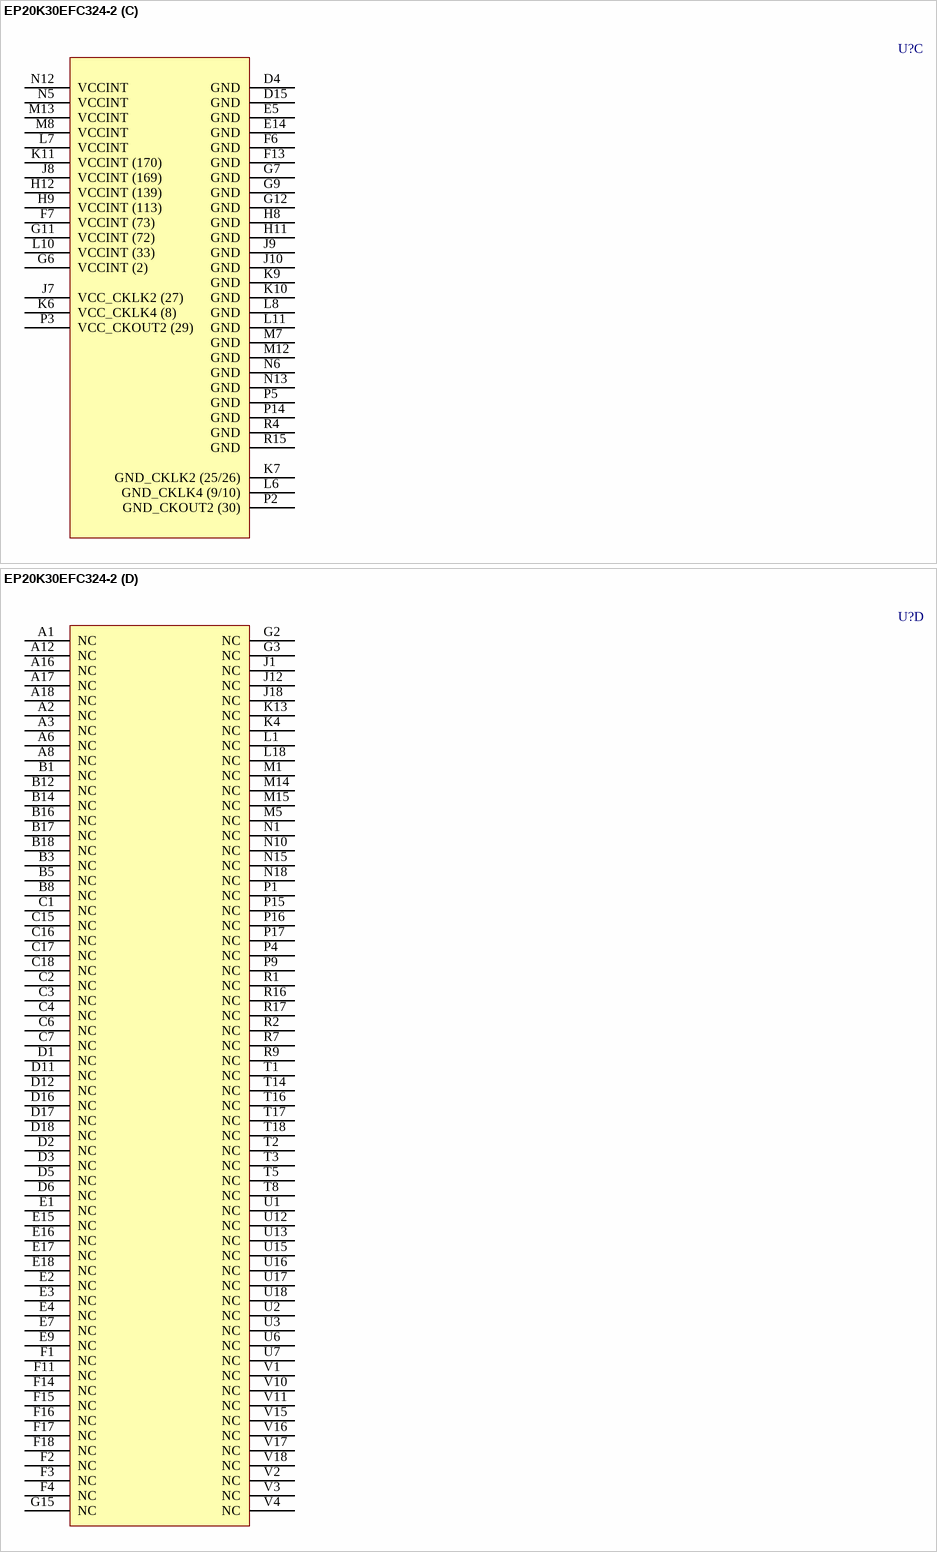
[diagram p9: symbol EP20K30EFC324-2]

## EP20K30EFC324-2
designator U?
APEX 20K30E PLD, 324-Pin FBGA, Commercial Grade, Speed Grade 2; Published: 17-Jul-2002; LatestRevisionDate: 13-Apr-2006; LatestRevisionNote: IPC-7351 Footprint Added.; DatasheetVersion: Mar-2004; PackageVersion: ver16.0, Dec-2009; PackageReference: FBGA324; Publisher: Altium Limited; PackageDescription: 324-Ball FineLine Ball Grid Array (FBGA324) - Wire Bond; Code_JEDEC: MS-034-AAG-1; Code_IPC: BGA100P18X18-324; ComponentLink1Description: Manufacturer Link; ComponentLink1URL: http://www.altera.com/products/devices/apex/apx-index.html; ComponentLink2Description: Datasheet; ComponentLink2URL: http://www.altera.com/literature/ds/apex.pdf
footprint FBGA324 (BGA, 324-Leads, Body 19x19mm, Pitch 1mm)
3D model EP20K30E-FBGA324 (324-Ball FineLine Ball Grid Array (FBGA324) - Wire Bond)
part A pins: A4 IO (193) (io), A5 IO (187) (io), A7 IO (180) (io), A9 IO (159) (io), A10 IO (158) (io), A11 IO (156) (io), A13 IO (149) (io), A14 IO (148) (io), A15 IO (144) (io), B2 IO/DATA5 (195) (io), B4 IO (194) (io), B6 IO/DATA3 (188) (io), B7 IO (185) (io), B9 FAST2 (173) (io), B11 IO (157) (io), B13 IO (150) (io), B15 IO (143) (io), C5 IO/DATA4 (192) (io), C8 IO (186) (io), C11 IO (161) (io), C12 IO (154) (io), C13 IO (151) (io), C14 IO (146) (io), D7 IO (190) (io), D8 IO (182) (io), D9 IO (176) (io), D10 FAST1 (166) (io), D13 IO (152) (io), D14 IO (145) (io), E6 VCCIO1 (172) (power), E8 IO/DATA2 (184) (io), E10 IO/RDYnBSY (178) (io), E11 IO/INITDONE (177) (io), E12 IO (162) (io), E13 IO (153) (io), F5 VCCIO8 (6) (power), F8 IO (189) (io), F9 IO/DATA1 (181) (io), F10 IO/CLKUSR (179) (io), F12 VCCIO2 (147) (power), G1 IO (41) (io), G4 IO/DATA6 (1) (io), G5 IO (38) (io), G8 VCCIO1 (191) (power), G10 IO (160) (io), G13 VCCIO3 (power), G14 IO (141) (io), G16 IO (131) (io), G17 IO (140) (io), G18 IO (138) (io), H1 IO (42) (io), H2 IO (37) (io), H3 IO (40) (io), H4 IO (35) (io), H5 IO/nCS (7) (io), H6 IO/DATA7 (3) (io), H7 VCCIO8 (power), H10 VCCIO2 (163) (power), H13 IO (132) (io), H14 IO (135) (io), H15 CLK3p (117) (in), H16 IO/CLK3n (116) (io), H17 IO (136) (io), H18 IO (137) (io), J4 CLK2p (21) (in), J5 IO/CLK2n (18) (io), J6 IO/nRS (5) (io), J11 VCCIO3 (134) (power), J13 IO (114) (io), J14 IO (128) (io), J15 IO (130) (io), K1 IO (43) (io), K5 IO/nWS (4) (io), K8 VCCIO7 (39) (power), K14 IO (112) (io), K15 IO/CLK1n (118) (io), K16 CLK1p (122) (in), K18 IO (127) (io), L2 CLK4p (17) (in), L3 IO/CLK4n (16) (io), L4 IO/DEV_OE (28) (io), L5 IO/DEV_CLRn (12) (io), L9 VCCIO6 (46) (power), L12 VCCIO4 (108) (power), L13 IO (105) (io), L14 IO (107) (io), L15 IO (111) (io), L16 IO (126) (io), L17 IO (125) (io), M2 IO/CS (11) (io), M4 IO/CLKLK_FB2n (14) (io), M6 VCCIO7 (power), M9 IO (62) (io), M10 IO (86) (io), M11 VCCIO5 (87) (power), M16 IO (109) (io), M17 IO (115) (io), M18 IO (133) (io), N2 IO/LOCK2 (34) (io), N3 IO/CLKLK_OUT2n (31) (io), N7 VCCIO6 (59) (power), N8 IO (66) (io), N9 IO (65) (io), N11 IO (90) (io), N14 VCCIO4 (power), N16 IO (103) (io), N17 IO (106) (io), P6 VCCIO6 (power), P7 IO (56) (io), P8 IO (60) (io), P10 IO (81) (io), P11 IO (83) (io), P12 IO (92) (io), P13 VCCIO5 (100) (power), P18 IO (110) (io), R3 IO/LOCK4 (36) (io), R5 IO (50) (io), R6 IO (53) (io), R8 IO (61) (io), R10 IO (63) (io), R11 IO (84) (io), R12 IO (89) (io), R13 IO (97) (io), R14 IO (98) (io), R18 IO (102) (io), T4 IO (49) (io), T6 IO (54) (io), T7 IO (58) (io), T9 FAST4 (69) (io), T10 FAST3 (77) (io), T11 IO (82) (io), T12 IO (88) (io), T13 IO (94) (io), T15 IO (99) (io), U4 IO (48) (io), U5 IO (47) (io), U14 IO (95) (io), V5 IO (52) (io), V6 IO (57) (io), V7 IO (55) (io), V8 IO (64) (io), V9 IO (80) (io), V12 IO (85) (io), V13 IO (91) (io), V14 IO (93) (io)
part B pins: B10 TRST (164) (in), C9 TDO (174) (out), C10 nCEO (165) (out), J2 DATA0 (19) (in), J3 DCLK (20) (in), J16 MSEL1 (123) (in), J17 MSEL0 (124) (in), K2 nCE (22) (in), K3 TDI (23) (in), K12 CLKLK_ENA (121) (in), K17 nCONFIG (120) (in), M3 CLKLK_OUT2p (32) (out), N4 CLKLK_FB2p (15) (in), U8 CONF_DONE (67) (io), U9 nSTATUS (68) (io), U10 TCK (78) (in), U11 TMS (79) (in)
part C pins: D4 GND (power), D15 GND (power), E5 GND (power), E14 GND (power), F6 GND (power), F7 VCCINT (73) (power), F13 GND (power), G6 VCCINT (2) (power), G7 GND (power), G9 GND (power), G11 VCCINT (72) (power), G12 GND (power), H8 GND (power), H9 VCCINT (113) (power), H11 GND (power), H12 VCCINT (139) (power), J7 VCC_CKLK2 (27) (power), J8 VCCINT (169) (power), J9 GND (power), J10 GND (power), K6 VCC_CKLK4 (8) (power), K7 GND_CKLK2 (25/26) (power), K9 GND (power), K10 GND (power), K11 VCCINT (170) (power), L6 GND_CKLK4 (9/10) (power), L7 VCCINT (power), L8 GND (power), L10 VCCINT (33) (power), L11 GND (power), M7 GND (power), M8 VCCINT (power), M12 GND (power), M13 VCCINT (power), N5 VCCINT (power), N6 GND (power), N12 VCCINT (power), N13 GND (power), P2 GND_CKOUT2 (30) (power), P3 VCC_CKOUT2 (29) (power), P5 GND (power), P14 GND (power), R4 GND (power), R15 GND (power)
part D pins: A1 NC, A2 NC, A3 NC, A6 NC, A8 NC, A12 NC, A16 NC, A17 NC, A18 NC, B1 NC, B3 NC, B5 NC, B8 NC, B12 NC, B14 NC, B16 NC, B17 NC, B18 NC, C1 NC, C2 NC, C3 NC, C4 NC, C6 NC, C7 NC, C15 NC, C16 NC, C17 NC, C18 NC, D1 NC, D2 NC, D3 NC, D5 NC, D6 NC, D11 NC, D12 NC, D16 NC, D17 NC, D18 NC, E1 NC, E2 NC, E3 NC, E4 NC, E7 NC, E9 NC, E15 NC, E16 NC, E17 NC, E18 NC, F1 NC, F2 NC, F3 NC, F4 NC, F11 NC, F14 NC, F15 NC, F16 NC, F17 NC, F18 NC, G2 NC, G3 NC, G15 NC, J1 NC, J12 NC, J18 NC, K4 NC, K13 NC, L1 NC, L18 NC, M1 NC, M5 NC, M14 NC, M15 NC, N1 NC, N10 NC, N15 NC, N18 NC, P1 NC, P4 NC, P9 NC, P15 NC, P16 NC, P17 NC, R1 NC, R2 NC, R7 NC, R9 NC, R16 NC, R17 NC, T1 NC, T2 NC, T3 NC, T5 NC, T8 NC, T14 NC, T16 NC, T17 NC, T18 NC, U1 NC, U2 NC, U3 NC, U6 NC, U7 NC, U12 NC, U13 NC, U15 NC, U16 NC, U17 NC, U18 NC, V1 NC, V2 NC, V3 NC, V4 NC, V10 NC, V11 NC, V15 NC, V16 NC, V17 NC, V18 NC

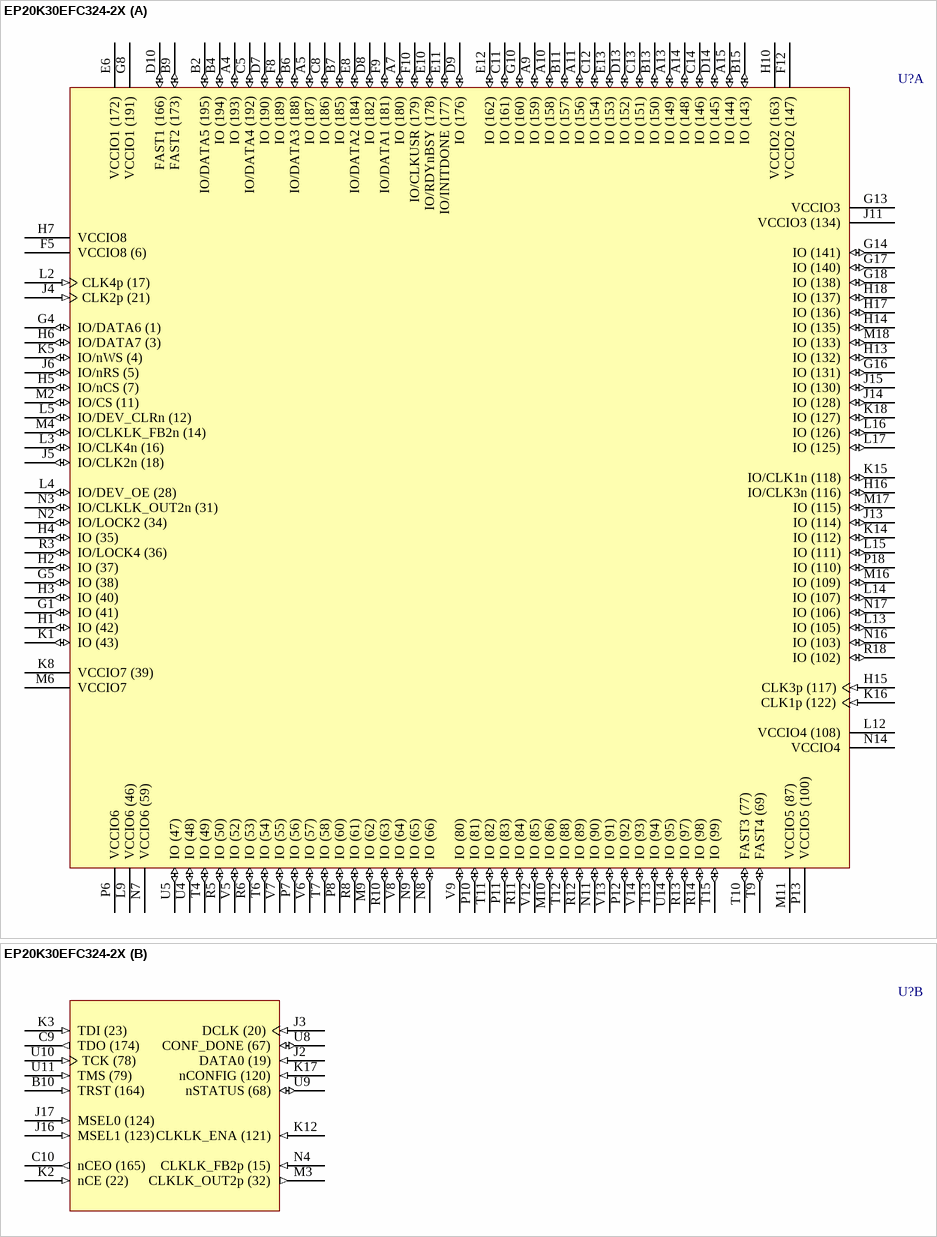
[diagram p10: symbol EP20K30EFC324-2X]

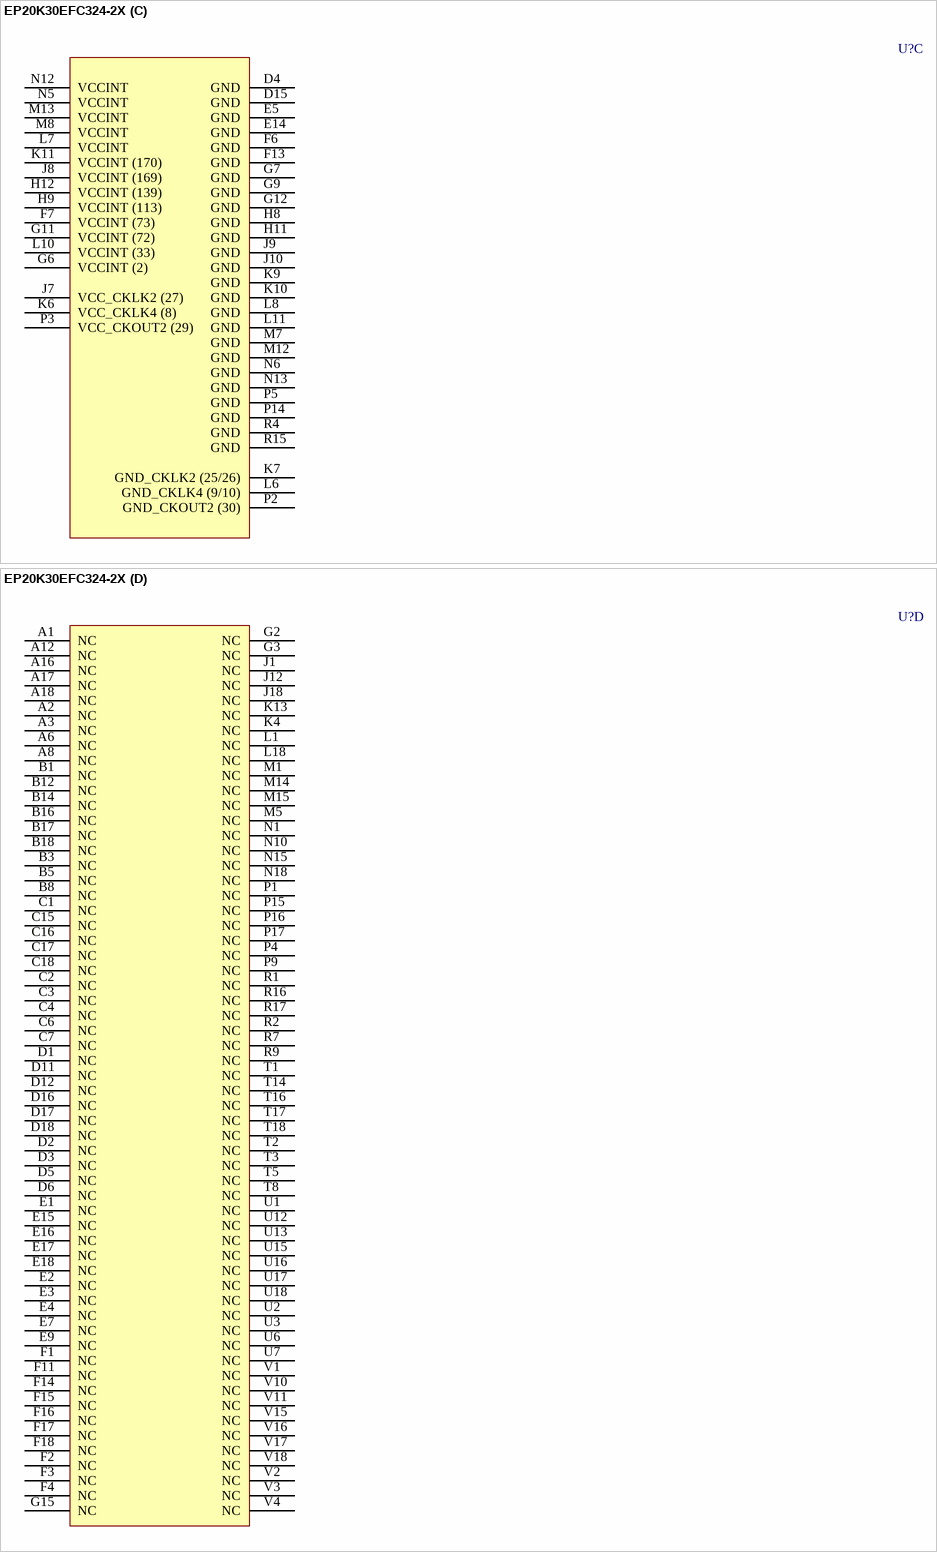
[diagram p11: symbol EP20K30EFC324-2X]

## EP20K30EFC324-2X
designator U?
APEX 20K30E PLD with PLLs and LVDS, 324-Pin FBGA, Commercial Grade, Speed Grade 2; Published: 17-Jul-2002; LatestRevisionDate: 13-Apr-2006; LatestRevisionNote: IPC-7351 Footprint Added.; DatasheetVersion: Mar-2004; PackageVersion: ver16.0, Dec-2009; PackageReference: FBGA324; Publisher: Altium Limited; PackageDescription: 324-Ball FineLine Ball Grid Array (FBGA324) - Wire Bond; Code_JEDEC: MS-034-AAG-1; Code_IPC: BGA100P18X18-324; ComponentLink1Description: Manufacturer Link; ComponentLink1URL: http://www.altera.com/products/devices/apex/apx-index.html; ComponentLink2Description: Datasheet; ComponentLink2URL: http://www.altera.com/literature/ds/apex.pdf
footprint FBGA324 (BGA, 324-Leads, Body 19x19mm, Pitch 1mm)
3D model EP20K30E-FBGA324 (324-Ball FineLine Ball Grid Array (FBGA324) - Wire Bond)
part A pins: A4 IO (193) (io), A5 IO (187) (io), A7 IO (180) (io), A9 IO (159) (io), A10 IO (158) (io), A11 IO (156) (io), A13 IO (149) (io), A14 IO (148) (io), A15 IO (144) (io), B2 IO/DATA5 (195) (io), B4 IO (194) (io), B6 IO/DATA3 (188) (io), B7 IO (185) (io), B9 FAST2 (173) (io), B11 IO (157) (io), B13 IO (150) (io), B15 IO (143) (io), C5 IO/DATA4 (192) (io), C8 IO (186) (io), C11 IO (161) (io), C12 IO (154) (io), C13 IO (151) (io), C14 IO (146) (io), D7 IO (190) (io), D8 IO (182) (io), D9 IO (176) (io), D10 FAST1 (166) (io), D13 IO (152) (io), D14 IO (145) (io), E6 VCCIO1 (172) (power), E8 IO/DATA2 (184) (io), E10 IO/RDYnBSY (178) (io), E11 IO/INITDONE (177) (io), E12 IO (162) (io), E13 IO (153) (io), F5 VCCIO8 (6) (power), F8 IO (189) (io), F9 IO/DATA1 (181) (io), F10 IO/CLKUSR (179) (io), F12 VCCIO2 (147) (power), G1 IO (41) (io), G4 IO/DATA6 (1) (io), G5 IO (38) (io), G8 VCCIO1 (191) (power), G10 IO (160) (io), G13 VCCIO3 (power), G14 IO (141) (io), G16 IO (131) (io), G17 IO (140) (io), G18 IO (138) (io), H1 IO (42) (io), H2 IO (37) (io), H3 IO (40) (io), H4 IO (35) (io), H5 IO/nCS (7) (io), H6 IO/DATA7 (3) (io), H7 VCCIO8 (power), H10 VCCIO2 (163) (power), H13 IO (132) (io), H14 IO (135) (io), H15 CLK3p (117) (in), H16 IO/CLK3n (116) (io), H17 IO (136) (io), H18 IO (137) (io), J4 CLK2p (21) (in), J5 IO/CLK2n (18) (io), J6 IO/nRS (5) (io), J11 VCCIO3 (134) (power), J13 IO (114) (io), J14 IO (128) (io), J15 IO (130) (io), K1 IO (43) (io), K5 IO/nWS (4) (io), K8 VCCIO7 (39) (power), K14 IO (112) (io), K15 IO/CLK1n (118) (io), K16 CLK1p (122) (in), K18 IO (127) (io), L2 CLK4p (17) (in), L3 IO/CLK4n (16) (io), L4 IO/DEV_OE (28) (io), L5 IO/DEV_CLRn (12) (io), L9 VCCIO6 (46) (power), L12 VCCIO4 (108) (power), L13 IO (105) (io), L14 IO (107) (io), L15 IO (111) (io), L16 IO (126) (io), L17 IO (125) (io), M2 IO/CS (11) (io), M4 IO/CLKLK_FB2n (14) (io), M6 VCCIO7 (power), M9 IO (62) (io), M10 IO (86) (io), M11 VCCIO5 (87) (power), M16 IO (109) (io), M17 IO (115) (io), M18 IO (133) (io), N2 IO/LOCK2 (34) (io), N3 IO/CLKLK_OUT2n (31) (io), N7 VCCIO6 (59) (power), N8 IO (66) (io), N9 IO (65) (io), N11 IO (90) (io), N14 VCCIO4 (power), N16 IO (103) (io), N17 IO (106) (io), P6 VCCIO6 (power), P7 IO (56) (io), P8 IO (60) (io), P10 IO (81) (io), P11 IO (83) (io), P12 IO (92) (io), P13 VCCIO5 (100) (power), P18 IO (110) (io), R3 IO/LOCK4 (36) (io), R5 IO (50) (io), R6 IO (53) (io), R8 IO (61) (io), R10 IO (63) (io), R11 IO (84) (io), R12 IO (89) (io), R13 IO (97) (io), R14 IO (98) (io), R18 IO (102) (io), T4 IO (49) (io), T6 IO (54) (io), T7 IO (58) (io), T9 FAST4 (69) (io), T10 FAST3 (77) (io), T11 IO (82) (io), T12 IO (88) (io), T13 IO (94) (io), T15 IO (99) (io), U4 IO (48) (io), U5 IO (47) (io), U14 IO (95) (io), V5 IO (52) (io), V6 IO (57) (io), V7 IO (55) (io), V8 IO (64) (io), V9 IO (80) (io), V12 IO (85) (io), V13 IO (91) (io), V14 IO (93) (io)
part B pins: B10 TRST (164) (in), C9 TDO (174) (out), C10 nCEO (165) (out), J2 DATA0 (19) (in), J3 DCLK (20) (in), J16 MSEL1 (123) (in), J17 MSEL0 (124) (in), K2 nCE (22) (in), K3 TDI (23) (in), K12 CLKLK_ENA (121) (in), K17 nCONFIG (120) (in), M3 CLKLK_OUT2p (32) (out), N4 CLKLK_FB2p (15) (in), U8 CONF_DONE (67) (io), U9 nSTATUS (68) (io), U10 TCK (78) (in), U11 TMS (79) (in)
part C pins: D4 GND (power), D15 GND (power), E5 GND (power), E14 GND (power), F6 GND (power), F7 VCCINT (73) (power), F13 GND (power), G6 VCCINT (2) (power), G7 GND (power), G9 GND (power), G11 VCCINT (72) (power), G12 GND (power), H8 GND (power), H9 VCCINT (113) (power), H11 GND (power), H12 VCCINT (139) (power), J7 VCC_CKLK2 (27) (power), J8 VCCINT (169) (power), J9 GND (power), J10 GND (power), K6 VCC_CKLK4 (8) (power), K7 GND_CKLK2 (25/26) (power), K9 GND (power), K10 GND (power), K11 VCCINT (170) (power), L6 GND_CKLK4 (9/10) (power), L7 VCCINT (power), L8 GND (power), L10 VCCINT (33) (power), L11 GND (power), M7 GND (power), M8 VCCINT (power), M12 GND (power), M13 VCCINT (power), N5 VCCINT (power), N6 GND (power), N12 VCCINT (power), N13 GND (power), P2 GND_CKOUT2 (30) (power), P3 VCC_CKOUT2 (29) (power), P5 GND (power), P14 GND (power), R4 GND (power), R15 GND (power)
part D pins: A1 NC, A2 NC, A3 NC, A6 NC, A8 NC, A12 NC, A16 NC, A17 NC, A18 NC, B1 NC, B3 NC, B5 NC, B8 NC, B12 NC, B14 NC, B16 NC, B17 NC, B18 NC, C1 NC, C2 NC, C3 NC, C4 NC, C6 NC, C7 NC, C15 NC, C16 NC, C17 NC, C18 NC, D1 NC, D2 NC, D3 NC, D5 NC, D6 NC, D11 NC, D12 NC, D16 NC, D17 NC, D18 NC, E1 NC, E2 NC, E3 NC, E4 NC, E7 NC, E9 NC, E15 NC, E16 NC, E17 NC, E18 NC, F1 NC, F2 NC, F3 NC, F4 NC, F11 NC, F14 NC, F15 NC, F16 NC, F17 NC, F18 NC, G2 NC, G3 NC, G15 NC, J1 NC, J12 NC, J18 NC, K4 NC, K13 NC, L1 NC, L18 NC, M1 NC, M5 NC, M14 NC, M15 NC, N1 NC, N10 NC, N15 NC, N18 NC, P1 NC, P4 NC, P9 NC, P15 NC, P16 NC, P17 NC, R1 NC, R2 NC, R7 NC, R9 NC, R16 NC, R17 NC, T1 NC, T2 NC, T3 NC, T5 NC, T8 NC, T14 NC, T16 NC, T17 NC, T18 NC, U1 NC, U2 NC, U3 NC, U6 NC, U7 NC, U12 NC, U13 NC, U15 NC, U16 NC, U17 NC, U18 NC, V1 NC, V2 NC, V3 NC, V4 NC, V10 NC, V11 NC, V15 NC, V16 NC, V17 NC, V18 NC

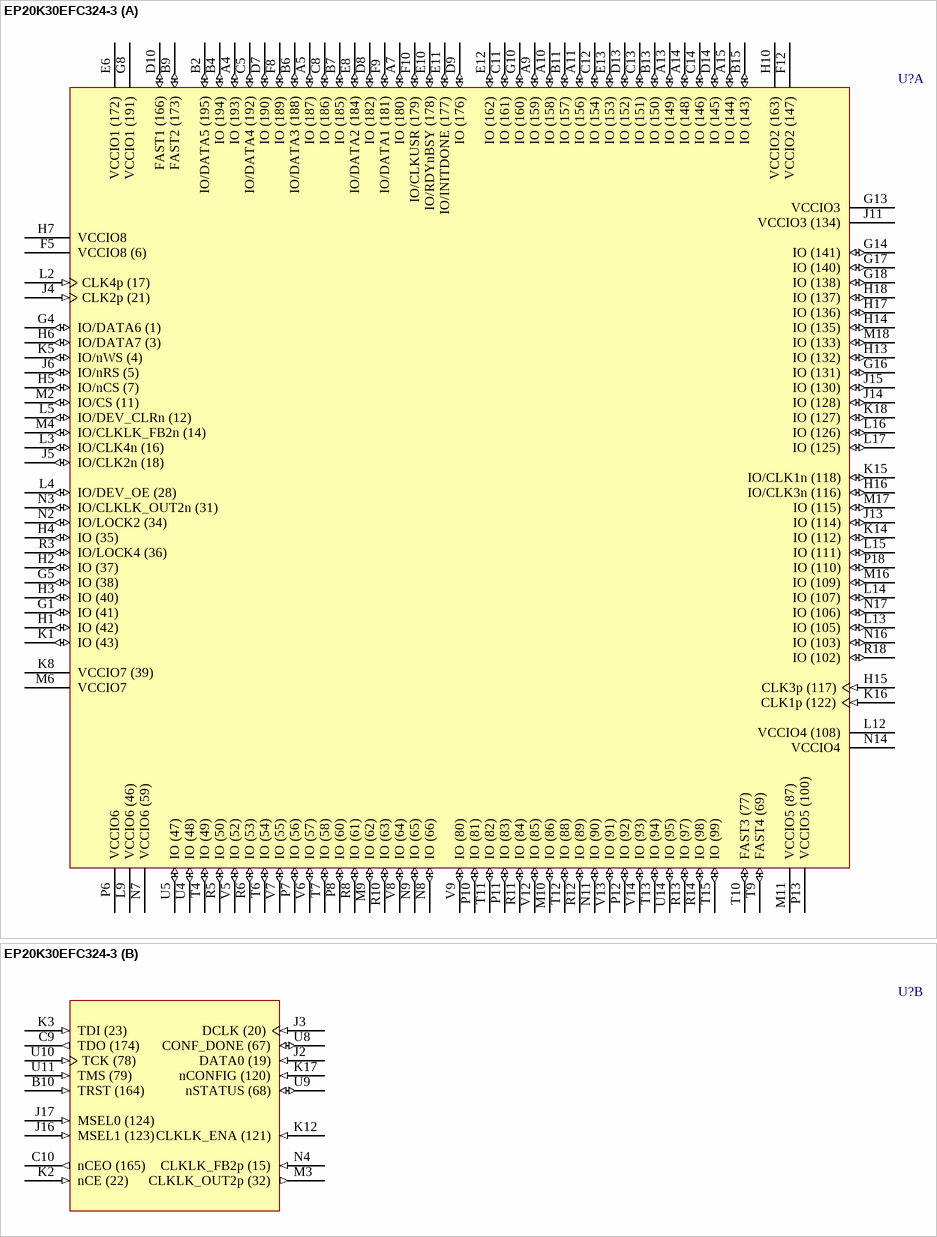
[diagram p12: symbol EP20K30EFC324-3]

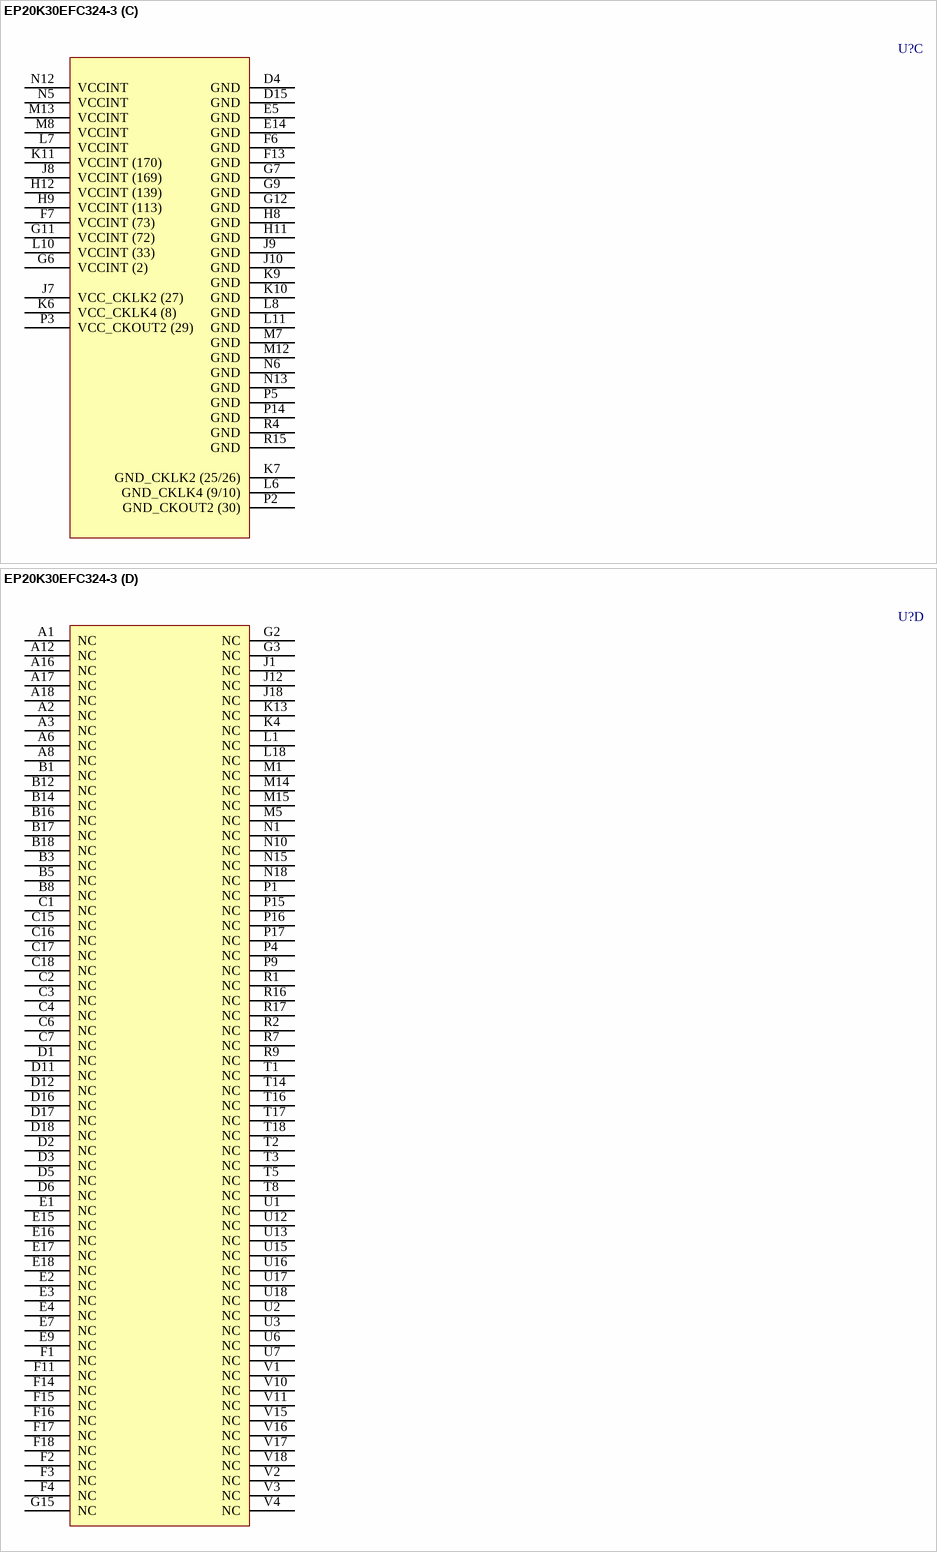
[diagram p13: symbol EP20K30EFC324-3]

## EP20K30EFC324-3
designator U?
APEX 20K30E PLD, 324-Pin FBGA, Commercial Grade, Speed Grade 3; Published: 17-Jul-2002; LatestRevisionDate: 13-Apr-2006; LatestRevisionNote: IPC-7351 Footprint Added.; DatasheetVersion: Mar-2004; PackageVersion: ver16.0, Dec-2009; PackageReference: FBGA324; Publisher: Altium Limited; PackageDescription: 324-Ball FineLine Ball Grid Array (FBGA324) - Wire Bond; Code_JEDEC: MS-034-AAG-1; Code_IPC: BGA100P18X18-324; ComponentLink1Description: Manufacturer Link; ComponentLink1URL: http://www.altera.com/products/devices/apex/apx-index.html; ComponentLink2Description: Datasheet; ComponentLink2URL: http://www.altera.com/literature/ds/apex.pdf
footprint FBGA324 (BGA, 324-Leads, Body 19x19mm, Pitch 1mm)
3D model EP20K30E-FBGA324 (324-Ball FineLine Ball Grid Array (FBGA324) - Wire Bond)
part A pins: A4 IO (193) (io), A5 IO (187) (io), A7 IO (180) (io), A9 IO (159) (io), A10 IO (158) (io), A11 IO (156) (io), A13 IO (149) (io), A14 IO (148) (io), A15 IO (144) (io), B2 IO/DATA5 (195) (io), B4 IO (194) (io), B6 IO/DATA3 (188) (io), B7 IO (185) (io), B9 FAST2 (173) (io), B11 IO (157) (io), B13 IO (150) (io), B15 IO (143) (io), C5 IO/DATA4 (192) (io), C8 IO (186) (io), C11 IO (161) (io), C12 IO (154) (io), C13 IO (151) (io), C14 IO (146) (io), D7 IO (190) (io), D8 IO (182) (io), D9 IO (176) (io), D10 FAST1 (166) (io), D13 IO (152) (io), D14 IO (145) (io), E6 VCCIO1 (172) (power), E8 IO/DATA2 (184) (io), E10 IO/RDYnBSY (178) (io), E11 IO/INITDONE (177) (io), E12 IO (162) (io), E13 IO (153) (io), F5 VCCIO8 (6) (power), F8 IO (189) (io), F9 IO/DATA1 (181) (io), F10 IO/CLKUSR (179) (io), F12 VCCIO2 (147) (power), G1 IO (41) (io), G4 IO/DATA6 (1) (io), G5 IO (38) (io), G8 VCCIO1 (191) (power), G10 IO (160) (io), G13 VCCIO3 (power), G14 IO (141) (io), G16 IO (131) (io), G17 IO (140) (io), G18 IO (138) (io), H1 IO (42) (io), H2 IO (37) (io), H3 IO (40) (io), H4 IO (35) (io), H5 IO/nCS (7) (io), H6 IO/DATA7 (3) (io), H7 VCCIO8 (power), H10 VCCIO2 (163) (power), H13 IO (132) (io), H14 IO (135) (io), H15 CLK3p (117) (in), H16 IO/CLK3n (116) (io), H17 IO (136) (io), H18 IO (137) (io), J4 CLK2p (21) (in), J5 IO/CLK2n (18) (io), J6 IO/nRS (5) (io), J11 VCCIO3 (134) (power), J13 IO (114) (io), J14 IO (128) (io), J15 IO (130) (io), K1 IO (43) (io), K5 IO/nWS (4) (io), K8 VCCIO7 (39) (power), K14 IO (112) (io), K15 IO/CLK1n (118) (io), K16 CLK1p (122) (in), K18 IO (127) (io), L2 CLK4p (17) (in), L3 IO/CLK4n (16) (io), L4 IO/DEV_OE (28) (io), L5 IO/DEV_CLRn (12) (io), L9 VCCIO6 (46) (power), L12 VCCIO4 (108) (power), L13 IO (105) (io), L14 IO (107) (io), L15 IO (111) (io), L16 IO (126) (io), L17 IO (125) (io), M2 IO/CS (11) (io), M4 IO/CLKLK_FB2n (14) (io), M6 VCCIO7 (power), M9 IO (62) (io), M10 IO (86) (io), M11 VCCIO5 (87) (power), M16 IO (109) (io), M17 IO (115) (io), M18 IO (133) (io), N2 IO/LOCK2 (34) (io), N3 IO/CLKLK_OUT2n (31) (io), N7 VCCIO6 (59) (power), N8 IO (66) (io), N9 IO (65) (io), N11 IO (90) (io), N14 VCCIO4 (power), N16 IO (103) (io), N17 IO (106) (io), P6 VCCIO6 (power), P7 IO (56) (io), P8 IO (60) (io), P10 IO (81) (io), P11 IO (83) (io), P12 IO (92) (io), P13 VCCIO5 (100) (power), P18 IO (110) (io), R3 IO/LOCK4 (36) (io), R5 IO (50) (io), R6 IO (53) (io), R8 IO (61) (io), R10 IO (63) (io), R11 IO (84) (io), R12 IO (89) (io), R13 IO (97) (io), R14 IO (98) (io), R18 IO (102) (io), T4 IO (49) (io), T6 IO (54) (io), T7 IO (58) (io), T9 FAST4 (69) (io), T10 FAST3 (77) (io), T11 IO (82) (io), T12 IO (88) (io), T13 IO (94) (io), T15 IO (99) (io), U4 IO (48) (io), U5 IO (47) (io), U14 IO (95) (io), V5 IO (52) (io), V6 IO (57) (io), V7 IO (55) (io), V8 IO (64) (io), V9 IO (80) (io), V12 IO (85) (io), V13 IO (91) (io), V14 IO (93) (io)
part B pins: B10 TRST (164) (in), C9 TDO (174) (out), C10 nCEO (165) (out), J2 DATA0 (19) (in), J3 DCLK (20) (in), J16 MSEL1 (123) (in), J17 MSEL0 (124) (in), K2 nCE (22) (in), K3 TDI (23) (in), K12 CLKLK_ENA (121) (in), K17 nCONFIG (120) (in), M3 CLKLK_OUT2p (32) (out), N4 CLKLK_FB2p (15) (in), U8 CONF_DONE (67) (io), U9 nSTATUS (68) (io), U10 TCK (78) (in), U11 TMS (79) (in)
part C pins: D4 GND (power), D15 GND (power), E5 GND (power), E14 GND (power), F6 GND (power), F7 VCCINT (73) (power), F13 GND (power), G6 VCCINT (2) (power), G7 GND (power), G9 GND (power), G11 VCCINT (72) (power), G12 GND (power), H8 GND (power), H9 VCCINT (113) (power), H11 GND (power), H12 VCCINT (139) (power), J7 VCC_CKLK2 (27) (power), J8 VCCINT (169) (power), J9 GND (power), J10 GND (power), K6 VCC_CKLK4 (8) (power), K7 GND_CKLK2 (25/26) (power), K9 GND (power), K10 GND (power), K11 VCCINT (170) (power), L6 GND_CKLK4 (9/10) (power), L7 VCCINT (power), L8 GND (power), L10 VCCINT (33) (power), L11 GND (power), M7 GND (power), M8 VCCINT (power), M12 GND (power), M13 VCCINT (power), N5 VCCINT (power), N6 GND (power), N12 VCCINT (power), N13 GND (power), P2 GND_CKOUT2 (30) (power), P3 VCC_CKOUT2 (29) (power), P5 GND (power), P14 GND (power), R4 GND (power), R15 GND (power)
part D pins: A1 NC, A2 NC, A3 NC, A6 NC, A8 NC, A12 NC, A16 NC, A17 NC, A18 NC, B1 NC, B3 NC, B5 NC, B8 NC, B12 NC, B14 NC, B16 NC, B17 NC, B18 NC, C1 NC, C2 NC, C3 NC, C4 NC, C6 NC, C7 NC, C15 NC, C16 NC, C17 NC, C18 NC, D1 NC, D2 NC, D3 NC, D5 NC, D6 NC, D11 NC, D12 NC, D16 NC, D17 NC, D18 NC, E1 NC, E2 NC, E3 NC, E4 NC, E7 NC, E9 NC, E15 NC, E16 NC, E17 NC, E18 NC, F1 NC, F2 NC, F3 NC, F4 NC, F11 NC, F14 NC, F15 NC, F16 NC, F17 NC, F18 NC, G2 NC, G3 NC, G15 NC, J1 NC, J12 NC, J18 NC, K4 NC, K13 NC, L1 NC, L18 NC, M1 NC, M5 NC, M14 NC, M15 NC, N1 NC, N10 NC, N15 NC, N18 NC, P1 NC, P4 NC, P9 NC, P15 NC, P16 NC, P17 NC, R1 NC, R2 NC, R7 NC, R9 NC, R16 NC, R17 NC, T1 NC, T2 NC, T3 NC, T5 NC, T8 NC, T14 NC, T16 NC, T17 NC, T18 NC, U1 NC, U2 NC, U3 NC, U6 NC, U7 NC, U12 NC, U13 NC, U15 NC, U16 NC, U17 NC, U18 NC, V1 NC, V2 NC, V3 NC, V4 NC, V10 NC, V11 NC, V15 NC, V16 NC, V17 NC, V18 NC

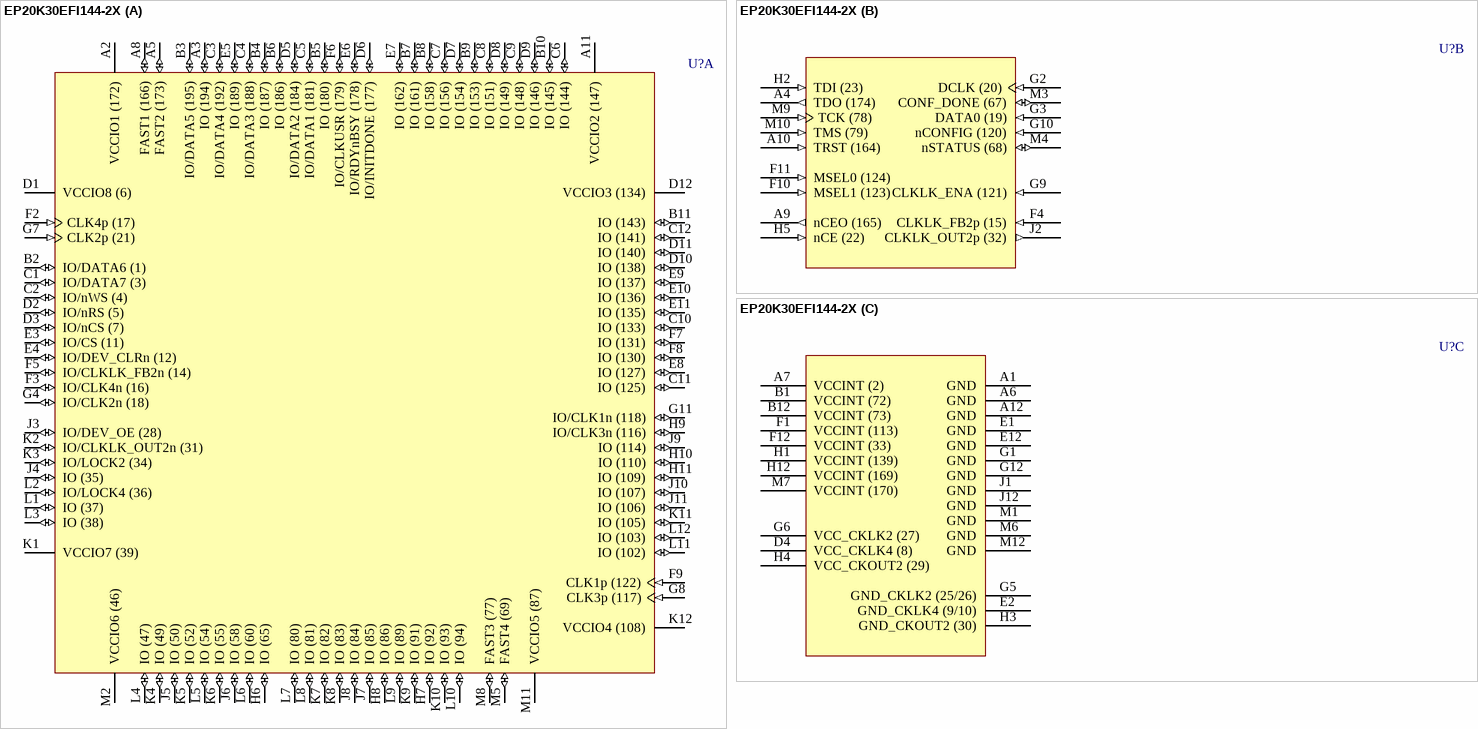
[diagram p14: symbol EP20K30EFI144-2X]